# Altium integrated library Freescale Semiconductor ColdFire MPU.IntLib: 17 symbols (part 1 of 2)
Pins are listed as number, name and electrical type; pins without a type are passive.

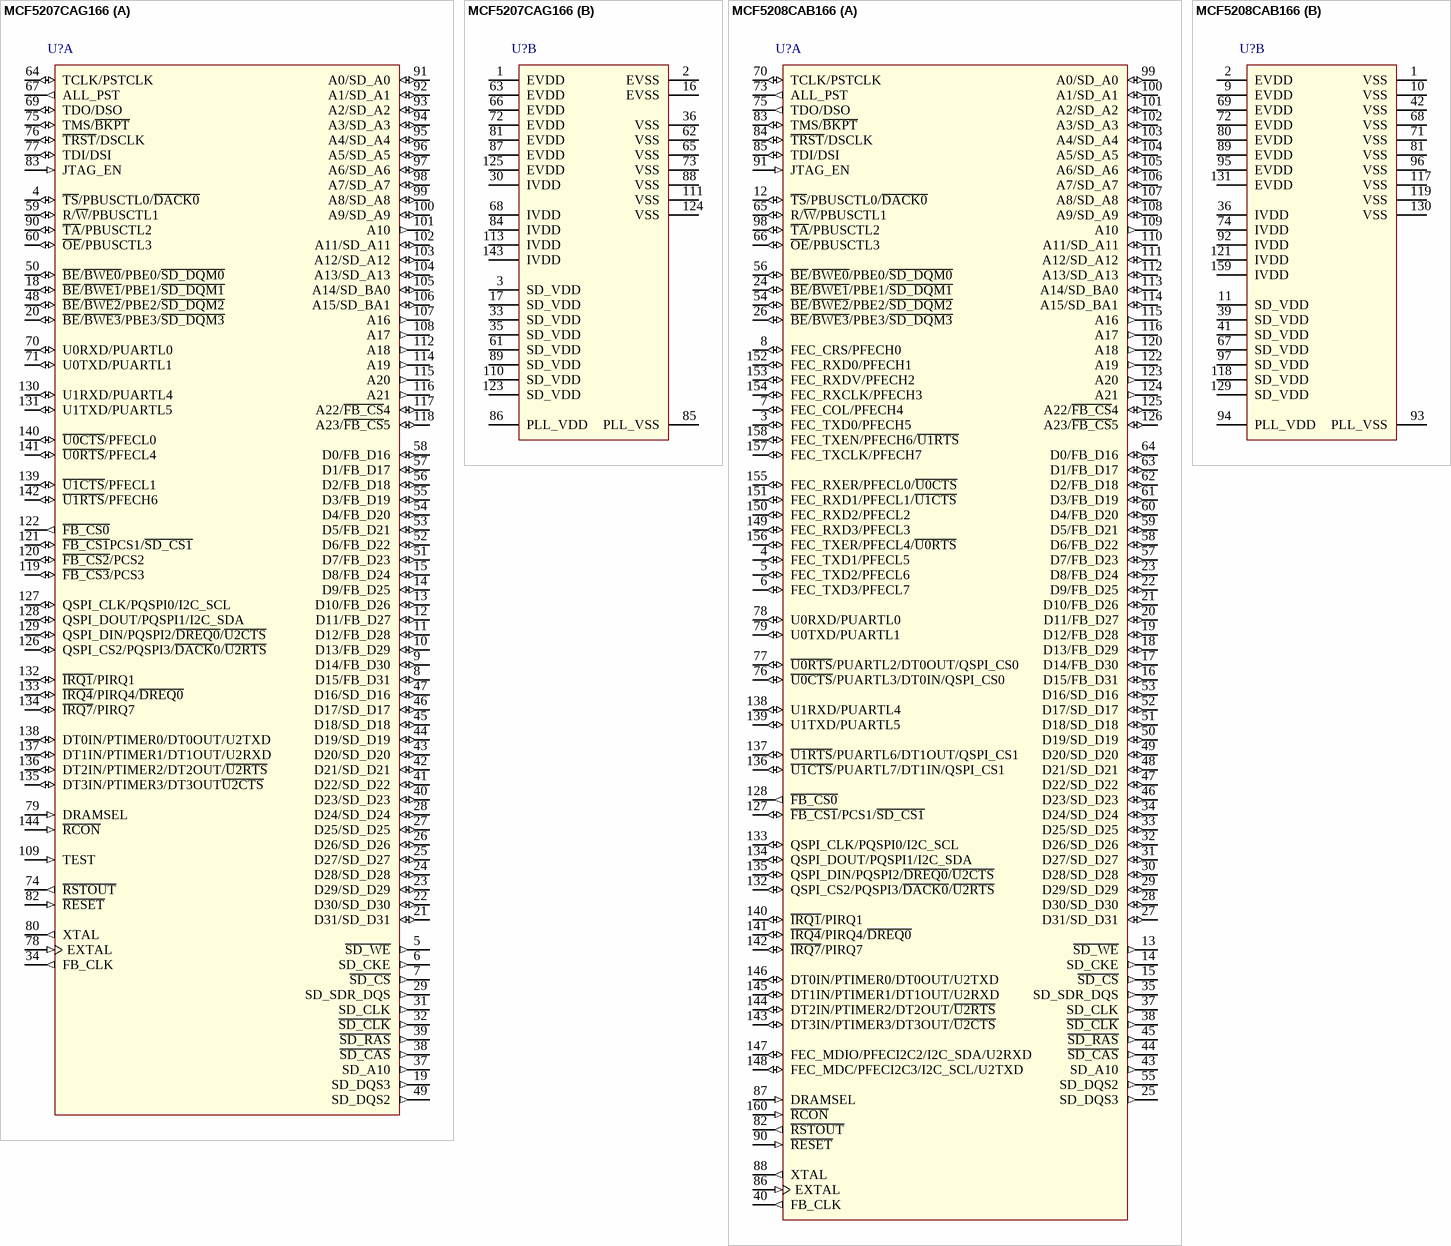
[diagram p0: symbols MCF5207CAG166 to MCF5208CAB166]

## MCF5207CAG166
designator U?
MCF5207 32-Bit Coldfire V2 Microprocessor, 166.67MHz, 16KB RAM, -40°C to 85°C, 144-Pin LQFP; DatasheetVersion: rev3, Sep-2009; PackageVersion: revG, Nov-2009; PackageReference: 918-03; PackageDescription: 144-Pin Thin Quad Flat Pack, 20 x 20 mm Body, 0.5 mm Pitch; ComponentLink1Description: Manufacturer URL; ComponentLink1URL: http://www.freescale.com/
footprint 918-03_N (Thin QFP, 144-Leads, Body 20x20mm, Pitch 0.5mm, IPC Medium Density)
footprint 918-03_L (Thin QFP, 144-Leads, Body 20x20mm, Pitch 0.5mm, IPC High Density)
footprint 918-03_M (Thin QFP, 144-Leads, Body 20x20mm, Pitch 0.5mm, IPC Low Density)
part A pins: 4 ~{TS}/PBUSCTL0/~{DACK0} (io), 5 ~{SD_WE} (out), 6 SD_CKE (out), 7 ~{SD_CS} (out), 8 D15/FB_D31 (io), 9 D14/FB_D30 (io), 10 D13/FB_D29 (io), 11 D12/FB_D28 (io), 12 D11/FB_D27 (io), 13 D10/FB_D26 (io), 14 D9/FB_D25 (io), 15 D8/FB_D24 (io), 18 ~{BE}/~{BWE1}/PBE1/~{SD_DQM1} (io), 19 SD_DQS3 (out), 20 ~{BE}/~{BWE3}/PBE3/~{SD_DQM3} (io), 21 D31/SD_D31 (io), 22 D30/SD_D30 (io), 23 D29/SD_D29 (io), 24 D28/SD_D28 (io), 25 D27/SD_D27 (io), 26 D26/SD_D26 (io), 27 D25/SD_D25 (io), 28 D24/SD_D24 (io), 29 SD_SDR_DQS (out), 31 SD_CLK (out), 32 ~{SD_CLK} (out), 34 FB_CLK (out), 37 SD_A10 (out), 38 ~{SD_CAS} (out), 39 ~{SD_RAS} (out), 40 D23/SD_D23 (io), 41 D22/SD_D22 (io), 42 D21/SD_D21 (io), 43 D20/SD_D20 (io), 44 D19/SD_D19 (io), 45 D18/SD_D18 (io), 46 D17/SD_D17 (io), 47 D16/SD_D16 (io), 48 ~{BE}/~{BWE2}/PBE2/~{SD_DQM2} (io), 49 SD_DQS2 (out), 50 ~{BE}/~{BWE0}/PBE0/~{SD_DQM0} (io), 51 D7/FB_D23 (io), 52 D6/FB_D22 (io), 53 D5/FB_D21 (io), 54 D4/FB_D20 (io), 55 D3/FB_D19 (io), 56 D2/FB_D18 (io), 57 D1/FB_D17 (io), 58 D0/FB_D16 (io), 59 R/~{W}/PBUSCTL1 (io), 60 ~{OE}/PBUSCTL3 (io), 64 TCLK/PSTCLK (io), 67 ALL_PST (out), 69 TDO/DSO (io), 70 U0RXD/PUARTL0 (io), 71 U0TXD/PUARTL1 (io), 74 ~{RSTOUT} (out), 75 TMS/~{BKPT} (io), 76 ~{TRST}/DSCLK (io), 77 TDI/DSI (io), 78 EXTAL (in), 79 DRAMSEL (in), 80 XTAL (out), 82 ~{RESET} (in), 83 JTAG_EN (in), 90 ~{TA}/PBUSCTL2 (io), 91 A0/SD_A0 (io), 92 A1/SD_A1 (io), 93 A2/SD_A2 (io), 94 A3/SD_A3 (io), 95 A4/SD_A4 (io), 96 A5/SD_A5 (io), 97 A6/SD_A6 (io), 98 A7/SD_A7 (io), 99 A8/SD_A8 (io), 100 A9/SD_A9 (io), 101 A10 (out), 102 A11/SD_A11 (io), 103 A12/SD_A12 (io), 104 A13/SD_A13 (io), 105 A14/SD_BA0 (io), 106 A15/SD_BA1 (io), 107 A16 (out), 108 A17 (out), 109 TEST (in), 112 A18 (out), 114 A19 (out), 115 A20 (out), 116 A21 (out), 117 A22/~{FB_CS}4 (io), 118 A23/~{FB_CS}5 (io), 119 ~{FB_CS3}/PCS3 (io), 120 ~{FB_CS2}/PCS2 (io), 121 ~{FB_CS1}PCS1/~{SD_CS1} (io), 122 ~{FB_CS0} (out), 126 QSPI_CS2/PQSPI3/~{DACK}0/~{U2RTS} (io), 127 QSPI_CLK/PQSPI0/I2C_SCL (io), 128 QSPI_DOUT/PQSPI1/I2C_SDA (io), 129 QSPI_DIN/PQSPI2/~{DREQ0}/~{U2CTS} (io), 130 U1RXD/PUARTL4 (io), 131 U1TXD/PUARTL5 (io), 132 ~{IRQ1}/PIRQ1 (io), 133 ~{IRQ4}/PIRQ4/~{DREQ0} (io), 134 ~{IRQ7}/PIRQ7 (io), 135 DT3IN/PTIMER3/DT3OUT~{U2CTS} (io), 136 DT2IN/PTIMER2/DT2OUT/~{U2RTS} (io), 137 DT1IN/PTIMER1/DT1OUT/U2RXD (io), 138 DT0IN/PTIMER0/DT0OUT/U2TXD (io), 139 ~{U1CTS}/PFECL1 (io), 140 ~{U0CTS}/PFECL0 (io), 141 ~{U0RTS}/PFECL4 (io), 142 ~{U1RTS}/PFECH6 (io), 144 ~{RCON} (in)
part B pins: 1 EVDD (power), 2 EVSS (power), 3 SD_VDD (power), 16 EVSS (power), 17 SD_VDD (power), 30 IVDD (power), 33 SD_VDD (power), 35 SD_VDD (power), 36 VSS (power), 61 SD_VDD (power), 62 VSS (power), 63 EVDD (power), 65 VSS (power), 66 EVDD (power), 68 IVDD (power), 72 EVDD (power), 73 VSS (power), 81 EVDD (power), 84 IVDD (power), 85 PLL_VSS (power), 86 PLL_VDD (power), 87 EVDD (power), 88 VSS (power), 89 SD_VDD (power), 110 SD_VDD (power), 111 VSS (power), 113 IVDD (power), 123 SD_VDD (power), 124 VSS (power), 125 EVDD (power), 143 IVDD (power)

## MCF5208CAB166
designator U?
MCF5208 32-Bit Coldfire V2 Microprocessor, 166.67MHz, 16KB RAM, -40°C to 85°C, 160-Pin QFP; DatasheetVersion: rev3, Sep-2009; PackageVersion: rev4, Aug-2009; PackageReference: 864A-03; PackageDescription: 160-Pin Quad Flat Pack 0.65 mm Pitch; ComponentLink1Description: Manufacturer URL; ComponentLink1URL: http://www.freescale.com/
footprint 864A-03_N (QFP, 160-Leads, Body 28x28mm, Pitch 0.65mm, IPC Medium Density)
footprint 864A-03_L (QFP, 160-Leads, Body 28x28mm, Pitch 0.65mm, IPC High Density)
footprint 864A-03_M (QFP, 160-Leads, Body 28x28mm, Pitch 0.65mm, IPC Low Density)
part A pins: 3 FEC_TXD0/PFECH5 (io), 4 FEC_TXD1/PFECL5 (io), 5 FEC_TXD2/PFECL6 (io), 6 FEC_TXD3/PFECL7 (io), 7 FEC_COL/PFECH4 (io), 8 FEC_CRS/PFECH0 (io), 12 ~{TS}/PBUSCTL0/~{DACK0} (io), 13 ~{SD_WE} (out), 14 SD_CKE (out), 15 ~{SD_CS} (out), 16 D15/FB_D31 (io), 17 D14/FB_D30 (io), 18 D13/FB_D29 (io), 19 D12/FB_D28 (io), 20 D11/FB_D27 (io), 21 D10/FB_D26 (io), 22 D9/FB_D25 (io), 23 D8/FB_D24 (io), 24 ~{BE}/~{BWE1}/PBE1/~{SD_DQM1} (io), 25 SD_DQS3 (out), 26 ~{BE}/~{BWE3}/PBE3/~{SD_DQM3} (io), 27 D31/SD_D31 (io), 28 D30/SD_D30 (io), 29 D29/SD_D29 (io), 30 D28/SD_D28 (io), 31 D27/SD_D27 (io), 32 D26/SD_D26 (io), 33 D25/SD_D25 (io), 34 D24/SD_D24 (io), 35 SD_SDR_DQS (out), 37 SD_CLK (out), 38 ~{SD_CLK} (out), 40 FB_CLK (out), 43 SD_A10 (out), 44 ~{SD_CAS} (out), 45 ~{SD_RAS} (out), 46 D23/SD_D23 (io), 47 D22/SD_D22 (io), 48 D21/SD_D21 (io), 49 D20/SD_D20 (io), 50 D19/SD_D19 (io), 51 D18/SD_D18 (io), 52 D17/SD_D17 (io), 53 D16/SD_D16 (io), 54 ~{BE}/~{BWE2}/PBE2/~{SD_DQM2} (io), 55 SD_DQS2 (out), 56 ~{BE}/~{BWE0}/PBE0/~{SD_DQM0} (io), 57 D7/FB_D23 (io), 58 D6/FB_D22 (io), 59 D5/FB_D21 (io), 60 D4/FB_D20 (io), 61 D3/FB_D19 (io), 62 D2/FB_D18 (io), 63 D1/FB_D17 (io), 64 D0/FB_D16 (io), 65 R/~{W}/PBUSCTL1 (io), 66 ~{OE}/PBUSCTL3 (io), 70 TCLK/PSTCLK (io), 73 ALL_PST (out), 75 TDO/DSO (out), 76 ~{U0CTS}/PUARTL3/DT0IN/QSPI_CS0 (io), 77 ~{U0RTS}/PUARTL2/DT0OUT/QSPI_CS0 (io), 78 U0RXD/PUARTL0 (io), 79 U0TXD/PUARTL1 (io), 82 ~{RSTOUT} (out), 83 TMS/~{BKPT} (io), 84 ~{TRST}/DSCLK (io), 85 TDI/DSI (io), 86 EXTAL (in), 87 DRAMSEL (in), 88 XTAL (out), 90 ~{RESET} (in), 91 JTAG_EN (in), 98 ~{TA}/PBUSCTL2 (io), 99 A0/SD_A0 (io), 100 A1/SD_A1 (io), 101 A2/SD_A2 (io), 102 A3/SD_A3 (io), 103 A4/SD_A4 (io), 104 A5/SD_A5 (io), 105 A6/SD_A6 (io), 106 A7/SD_A7 (io), 107 A8/SD_A8 (io), 108 A9/SD_A9 (io), 109 A10 (out), 110 A11/SD_A11 (io), 111 A12/SD_A12 (io), 112 A13/SD_A13 (io), 113 A14/SD_BA0 (io), 114 A15/SD_BA1 (io), 115 A16 (out), 116 A17 (out), 120 A18 (out), 122 A19 (out), 123 A20 (out), 124 A21 (out), 125 A22/~{FB_CS}4 (io), 126 A23/~{FB_CS}5 (io), 127 ~{FB_CS1}/PCS1/~{SD_CS1} (io), 128 ~{FB_CS0} (out), 132 QSPI_CS2/PQSPI3/~{DACK0}/~{U2RTS} (io), 133 QSPI_CLK/PQSPI0/I2C_SCL (io), 134 QSPI_DOUT/PQSPI1/I2C_SDA (io), 135 QSPI_DIN/PQSPI2/~{DREQ0}/~{U2CTS} (io), 136 ~{U1CTS}/PUARTL7/DT1IN/QSPI_CS1 (io), 137 ~{U1RTS}/PUARTL6/DT1OUT/QSPI_CS1 (io), 138 U1RXD/PUARTL4 (io), 139 U1TXD/PUARTL5 (io), 140 ~{IRQ1}/PIRQ1 (io), 141 ~{IRQ4}/PIRQ4/~{DREQ0} (io), 142 ~{IRQ7}/PIRQ7 (io), 143 DT3IN/PTIMER3/DT3OUT/~{U2CTS} (io), 144 DT2IN/PTIMER2/DT2OUT/~{U2RTS} (io), 145 DT1IN/PTIMER1/DT1OUT/U2RXD (io), 146 DT0IN/PTIMER0/DT0OUT/U2TXD (io), 147 FEC_MDIO/PFECI2C2/I2C_SDA/U2RXD (io), 148 FEC_MDC/PFECI2C3/I2C_SCL/U2TXD (io), 149 FEC_RXD3/PFECL3 (io), 150 FEC_RXD2/PFECL2 (io), 151 FEC_RXD1/PFECL1/~{U1CTS} (io), 152 FEC_RXD0/PFECH1 (io), 153 FEC_RXDV/PFECH2 (io), 154 FEC_RXCLK/PFECH3 (io), 155 FEC_RXER/PFECL0/~{U0CTS} (io), 156 FEC_TXER/PFECL4/~{U0RTS} (io), 157 FEC_TXCLK/PFECH7 (io), 158 FEC_TXEN/PFECH6/~{U1RTS} (io), 160 ~{RCON} (in)
part B pins: 1 VSS (power), 2 EVDD (power), 9 EVDD (power), 10 VSS (power), 11 SD_VDD (power), 36 IVDD (power), 39 SD_VDD (power), 41 SD_VDD (power), 42 VSS (power), 67 SD_VDD (power), 68 VSS (power), 69 EVDD (power), 71 VSS (power), 72 EVDD (power), 74 IVDD (power), 80 EVDD (power), 81 VSS (power), 89 EVDD (power), 92 IVDD (power), 93 PLL_VSS (power), 94 PLL_VDD (power), 95 EVDD (power), 96 VSS (power), 97 SD_VDD (power), 117 VSS (power), 118 SD_VDD (power), 119 VSS (power), 121 IVDD (power), 129 SD_VDD (power), 130 VSS (power), 131 EVDD (power), 159 IVDD (power)

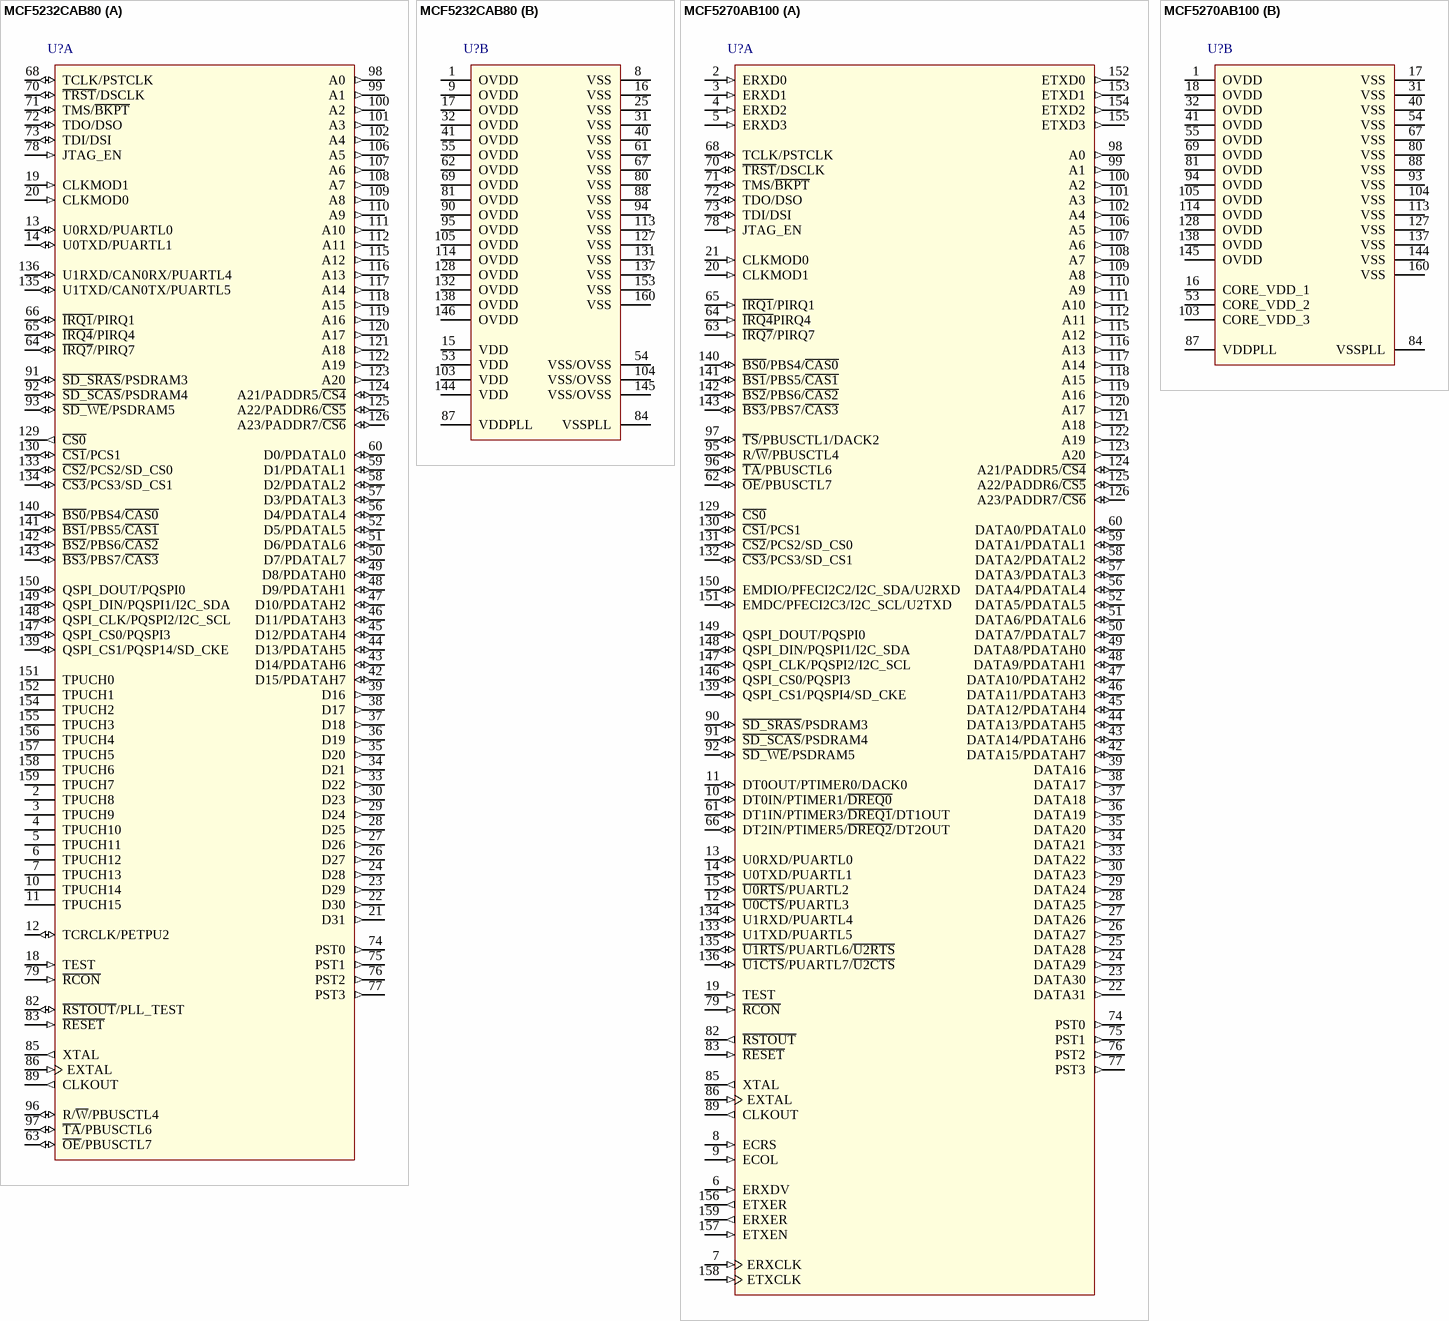
[diagram p1: symbols MCF5232CAB80 to MCF5270AB100]

## MCF5232CAB80
designator U?
MCF5232 32-Bit Coldfire V2 Microprocessor, 80MHz, 64KB RAM, -40°C to 85°C, 160-Pin QFP; DatasheetVersion: rev4, Aug-2009; PackageVersion: rev4, Aug-2009; PackageReference: 864A-03; PackageDescription: 160-Pin Quad Flat Pack 0.65 mm Pitch; ComponentLink1Description: Manufacturer URL; ComponentLink1URL: http://www.freescale.com/
footprint 864A-03_N (QFP, 160-Leads, Body 28x28mm, Pitch 0.65mm, IPC Medium Density)
footprint 864A-03_L (QFP, 160-Leads, Body 28x28mm, Pitch 0.65mm, IPC High Density)
footprint 864A-03_M (QFP, 160-Leads, Body 28x28mm, Pitch 0.65mm, IPC Low Density)
part A pins: 2 TPUCH8, 3 TPUCH9, 4 TPUCH10, 5 TPUCH11, 6 TPUCH12, 7 TPUCH13, 10 TPUCH14, 11 TPUCH15, 12 TCRCLK/PETPU2 (io), 13 U0RXD/PUARTL0 (io), 14 U0TXD/PUARTL1 (io), 18 TEST (in), 19 CLKMOD1 (in), 20 CLKMOD0 (in), 21 D31 (out), 22 D30 (out), 23 D29 (out), 24 D28 (out), 26 D27 (out), 27 D26 (out), 28 D25 (out), 29 D24 (out), 30 D23 (out), 33 D22 (out), 34 D21 (out), 35 D20 (out), 36 D19 (out), 37 D18 (out), 38 D17 (out), 39 D16 (out), 42 D15/PDATAH7 (io), 43 D14/PDATAH6 (io), 44 D13/PDATAH5 (io), 45 D12/PDATAH4 (io), 46 D11/PDATAH3 (io), 47 D10/PDATAH2 (io), 48 D9/PDATAH1 (io), 49 D8/PDATAH0 (io), 50 D7/PDATAL7 (io), 51 D6/PDATAL6 (io), 52 D5/PDATAL5 (io), 56 D4/PDATAL4 (io), 57 D3/PDATAL3 (io), 58 D2/PDATAL2 (io), 59 D1/PDATAL1 (io), 60 D0/PDATAL0 (io), 63 ~{OE}/PBUSCTL7 (io), 64 ~{IRQ7}/PIRQ7 (io), 65 ~{IRQ4}/PIRQ4 (io), 66 ~{IRQ1}/PIRQ1 (io), 68 TCLK/PSTCLK (io), 70 ~{TRST}/DSCLK (io), 71 TMS/~{BKPT} (io), 72 TDO/DSO (io), 73 TDI/DSI (io), 74 PST0 (out), 75 PST1 (out), 76 PST2 (out), 77 PST3 (out), 78 JTAG_EN (in), 79 ~{RCON} (in), 82 ~{RSTOUT}/PLL_TEST (io), 83 ~{RESET} (in), 85 XTAL (out), 86 EXTAL (in), 89 CLKOUT (out), 91 ~{SD_SRAS}/PSDRAM3 (io), 92 ~{SD_SCAS}/PSDRAM4 (io), 93 ~{SD_WE}/PSDRAM5 (io), 96 R/~{W}/PBUSCTL4 (io), 97 ~{TA}/PBUSCTL6 (io), 98 A0 (out), 99 A1 (out), 100 A2 (out), 101 A3 (out), 102 A4 (out), 106 A5 (out), 107 A6 (out), 108 A7 (out), 109 A8 (out), 110 A9 (out), 111 A10 (out), 112 A11 (out), 115 A12 (out), 116 A13 (out), 117 A14 (out), 118 A15 (out), 119 A16 (out), 120 A17 (out), 121 A18 (out), 122 A19 (out), 123 A20 (out), 124 A21/PADDR5/~{CS4} (io), 125 A22/PADDR6/~{CS5} (io), 126 A23/PADDR7/~{CS6} (io), 129 ~{CS0} (out), 130 ~{CS1}/PCS1 (io), 133 ~{CS2}/PCS2/SD_CS0 (io), 134 ~{CS3}/PCS3/SD_CS1 (io), 135 U1TXD/CAN0TX/PUARTL5 (io), 136 U1RXD/CAN0RX/PUARTL4 (io), 139 QSPI_CS1/PQSP14/SD_CKE (io), 140 ~{BS0}/PBS4/~{CAS0} (io), 141 ~{BS1}/PBS5/~{CAS1} (io), 142 ~{BS2}/PBS6/~{CAS2} (io), 143 ~{BS3}/PBS7/~{CAS3} (io), 147 QSPI_CS0/PQSPI3 (io), 148 QSPI_CLK/PQSPI2/I2C_SCL (io), 149 QSPI_DIN/PQSPI1/I2C_SDA (io), 150 QSPI_DOUT/PQSPI0 (io), 151 TPUCH0, 152 TPUCH1, 154 TPUCH2, 155 TPUCH3, 156 TPUCH4, 157 TPUCH5, 158 TPUCH6, 159 TPUCH7
part B pins: 1 OVDD (power), 8 VSS (power), 9 OVDD (power), 15 VDD (power), 16 VSS (power), 17 OVDD (power), 25 VSS (power), 31 VSS (power), 32 OVDD (power), 40 VSS (power), 41 OVDD (power), 53 VDD (power), 54 VSS/OVSS (power), 55 OVDD (power), 61 VSS (power), 62 OVDD (power), 67 VSS (power), 69 OVDD (power), 80 VSS (power), 81 OVDD (power), 84 VSSPLL (power), 87 VDDPLL (power), 88 VSS (power), 90 OVDD (power), 94 VSS (power), 95 OVDD (power), 103 VDD (power), 104 VSS/OVSS (power), 105 OVDD (power), 113 VSS (power), 114 OVDD (power), 127 VSS (power), 128 OVDD (power), 131 VSS (power), 132 OVDD (power), 137 VSS (power), 138 OVDD (power), 144 VDD (power), 145 VSS/OVSS (power), 146 OVDD (power), 153 VSS (power), 160 VSS (power)

## MCF5270AB100
designator U?
MCF5270 32-Bit Coldfire V2 Microprocessor, 100MHz, 64KB RAM, 0°C to 70°C, 160-Pin QFP; DatasheetVersion: rev4, Aug-2009; PackageVersion: rev4, Aug-2009; PackageReference: 864A-03; PackageDescription: 160-Pin Quad Flat Pack 0.65 mm Pitch; ComponentLink1Description: Manufacturer URL; ComponentLink1URL: http://www.freescale.com/
footprint 864A-03_N (QFP, 160-Leads, Body 28x28mm, Pitch 0.65mm, IPC Medium Density)
footprint 864A-03_L (QFP, 160-Leads, Body 28x28mm, Pitch 0.65mm, IPC High Density)
footprint 864A-03_M (QFP, 160-Leads, Body 28x28mm, Pitch 0.65mm, IPC Low Density)
part A pins: 2 ERXD0 (in), 3 ERXD1 (in), 4 ERXD2 (in), 5 ERXD3 (in), 6 ERXDV (in), 7 ERXCLK (in), 8 ECRS (in), 9 ECOL (in), 10 DT0IN/PTIMER1/~{DREQ0} (io), 11 DT0OUT/PTIMER0/DACK0 (io), 12 ~{U0CTS}/PUARTL3 (io), 13 U0RXD/PUARTL0 (io), 14 U0TXD/PUARTL1 (io), 15 ~{U0RTS}/PUARTL2 (io), 19 TEST (in), 20 CLKMOD1 (in), 21 CLKMOD0 (in), 22 DATA31 (out), 23 DATA30 (out), 24 DATA29 (out), 25 DATA28 (out), 26 DATA27 (out), 27 DATA26 (out), 28 DATA25 (out), 29 DATA24 (out), 30 DATA23 (out), 33 DATA22 (out), 34 DATA21 (out), 35 DATA20 (out), 36 DATA19 (out), 37 DATA18 (out), 38 DATA17 (out), 39 DATA16 (out), 42 DATA15/PDATAH7 (io), 43 DATA14/PDATAH6 (io), 44 DATA13/PDATAH5 (io), 45 DATA12/PDATAH4 (io), 46 DATA11/PDATAH3 (io), 47 DATA10/PDATAH2 (io), 48 DATA9/PDATAH1 (io), 49 DATA8/PDATAH0 (io), 50 DATA7/PDATAL7 (io), 51 DATA6/PDATAL6 (io), 52 DATA5/PDATAL5 (io), 56 DATA4/PDATAL4 (io), 57 DATA3/PDATAL3 (io), 58 DATA2/PDATAL2 (io), 59 DATA1/PDATAL1 (io), 60 DATA0/PDATAL0 (io), 61 DT1IN/PTIMER3/~{DREQ1}/DT1OUT (io), 62 ~{OE}/PBUSCTL7 (io), 63 ~{IRQ7}/PIRQ7 (in), 64 ~{IRQ4}PIRQ4 (in), 65 ~{IRQ1}/PIRQ1 (in), 66 DT2IN/PTIMER5/~{DREQ2}/DT2OUT (io), 68 TCLK/PSTCLK (io), 70 ~{TRST}/DSCLK (io), 71 TMS/~{BKPT} (io), 72 TDO/DSO (io), 73 TDI/DSI (io), 74 PST0 (out), 75 PST1 (out), 76 PST2 (out), 77 PST3 (out), 78 JTAG_EN (in), 79 ~{RCON} (in), 82 ~{RSTOUT} (out), 83 ~{RESET} (in), 85 XTAL (out), 86 EXTAL (in), 89 CLKOUT (out), 90 ~{SD_SRAS}/PSDRAM3 (io), 91 ~{SD_SCAS}/PSDRAM4 (io), 92 ~{SD_WE}/PSDRAM5 (io), 95 R/~{W}/PBUSCTL4 (io), 96 ~{TA}/PBUSCTL6 (io), 97 ~{TS}/PBUSCTL1/DACK2 (io), 98 A0 (out), 99 A1 (out), 100 A2 (out), 101 A3 (out), 102 A4 (out), 106 A5 (out), 107 A6 (out), 108 A7 (out), 109 A8 (out), 110 A9 (out), 111 A10 (out), 112 A11 (out), 115 A12 (out), 116 A13 (out), 117 A14 (out), 118 A15 (out), 119 A16 (out), 120 A17 (out), 121 A18 (out), 122 A19 (out), 123 A20 (out), 124 A21/PADDR5/~{CS4} (io), 125 A22/PADDR6/~{CS5} (io), 126 A23/PADDR7/~{CS6} (io), 129 ~{CS0} (io), 130 ~{CS1}/PCS1 (io), 131 ~{CS2}/PCS2/SD_CS0 (io), 132 ~{CS3}/PCS3/SD_CS1 (io), 133 U1TXD/PUARTL5 (io), 134 U1RXD/PUARTL4 (io), 135 ~{U1RTS}/PUARTL6/~{U2RTS} (io), 136 ~{U1CTS}/PUARTL7/~{U2CTS} (io), 139 QSPI_CS1/PQSPI4/SD_CKE (io), 140 ~{BS0}/PBS4/~{CAS0} (io), 141 ~{BS1}/PBS5/~{CAS1} (io), 142 ~{BS2}/PBS6/~{CAS2} (io), 143 ~{BS3}/PBS7/~{CAS3} (io), 146 QSPI_CS0/PQSPI3 (io), 147 QSPI_CLK/PQSPI2/I2C_SCL (io), 148 QSPI_DIN/PQSPI1/I2C_SDA (io), 149 QSPI_DOUT/PQSPI0 (io), 150 EMDIO/PFECI2C2/I2C_SDA/U2RXD (io), 151 EMDC/PFECI2C3/I2C_SCL/U2TXD (io), 152 ETXD0 (out), 153 ETXD1 (out), 154 ETXD2 (out), 155 ETXD3 (out), 156 ETXER (out), 157 ETXEN (in), 158 ETXCLK (in), 159 ERXER (out)
part B pins: 1 OVDD (power), 16 CORE_VDD_1 (power), 17 VSS (power), 18 OVDD (power), 31 VSS (power), 32 OVDD (power), 40 VSS (power), 41 OVDD (power), 53 CORE_VDD_2 (power), 54 VSS (power), 55 OVDD (power), 67 VSS (power), 69 OVDD (power), 80 VSS (power), 81 OVDD (power), 84 VSSPLL (power), 87 VDDPLL (power), 88 VSS (power), 93 VSS (power), 94 OVDD (power), 103 CORE_VDD_3 (power), 104 VSS (power), 105 OVDD (power), 113 VSS (power), 114 OVDD (power), 127 VSS (power), 128 OVDD (power), 137 VSS (power), 138 OVDD (power), 144 VSS (power), 145 OVDD (power), 160 VSS (power)

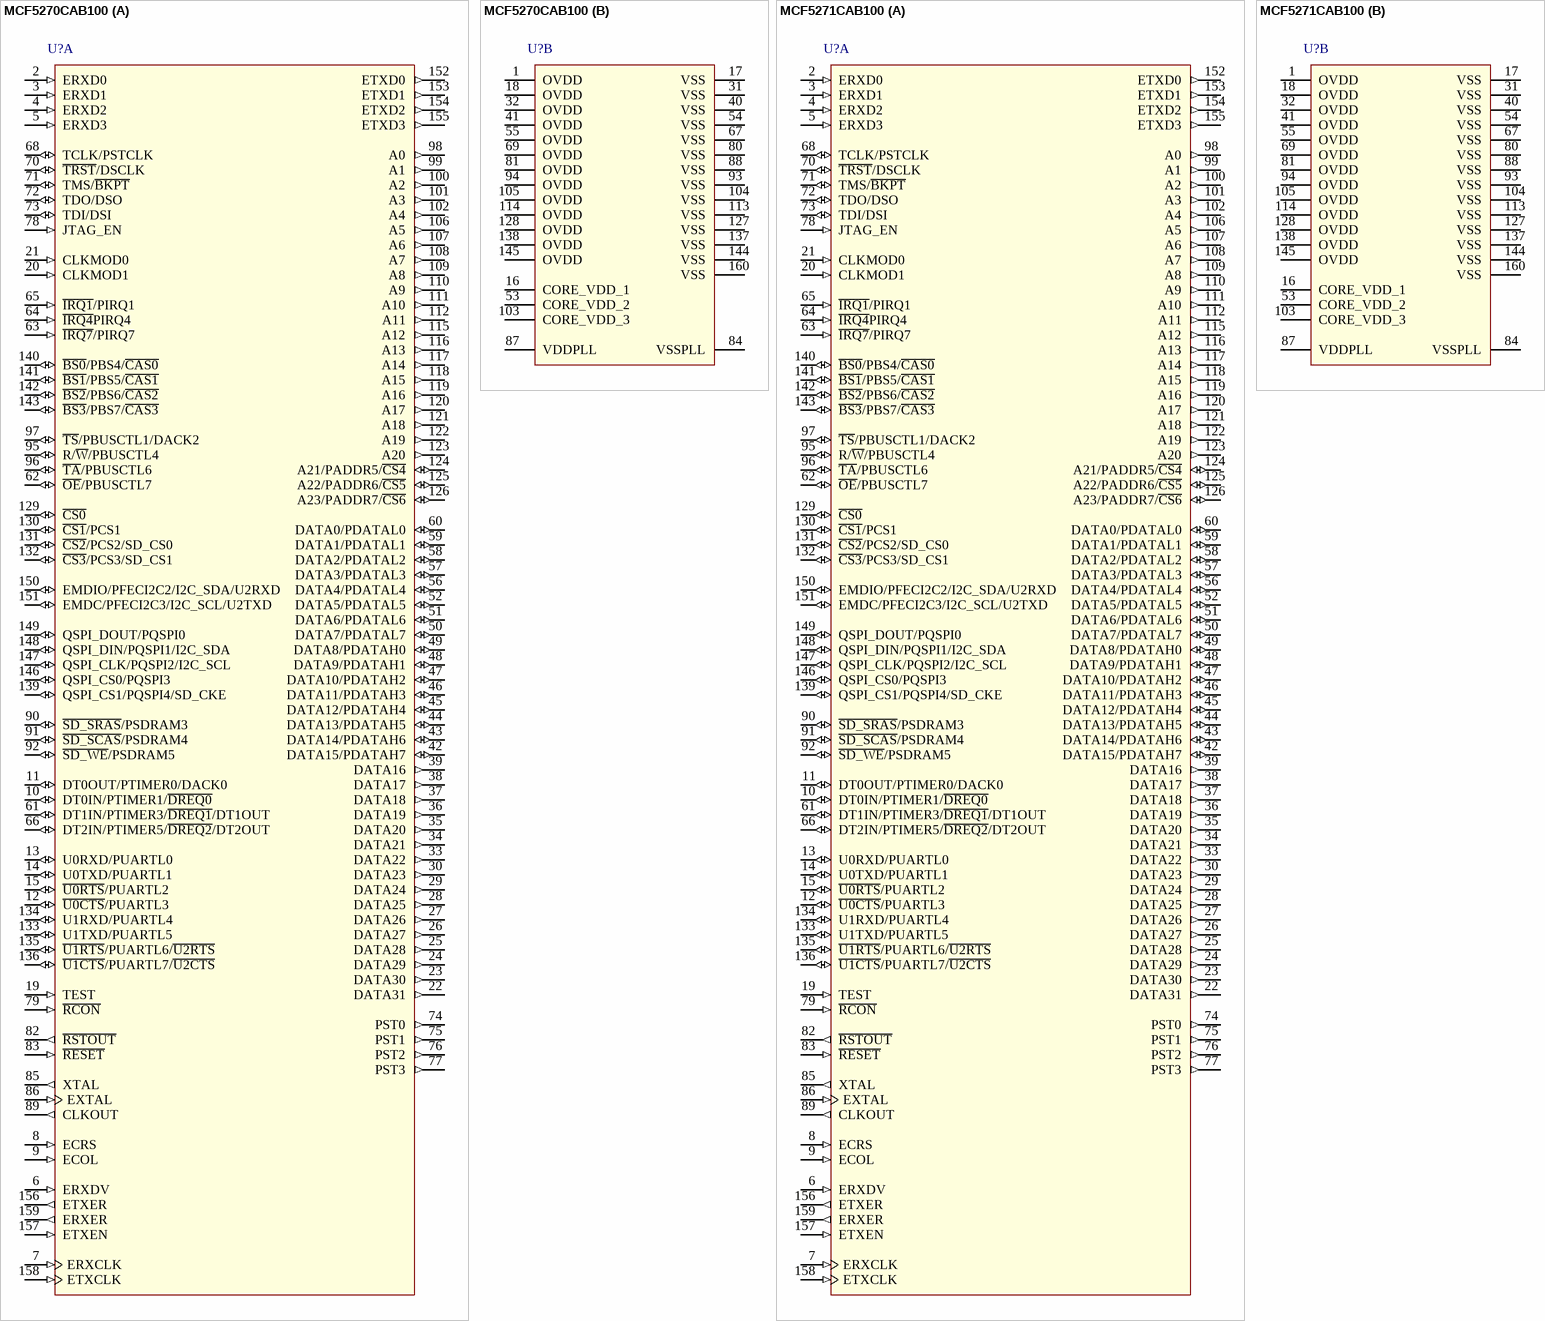
[diagram p2: symbols MCF5270CAB100 to MCF5271CAB100]

## MCF5270CAB100
designator U?
MCF5270 32-Bit Coldfire V2 Microprocessor, 100MHz, 64KB RAM, -40°C to 85°C, 160-Pin QFP; DatasheetVersion: rev4, Aug-2009; PackageVersion: rev4, Aug-2009; PackageReference: 864A-03; PackageDescription: 160-Pin Quad Flat Pack 0.65 mm Pitch; ComponentLink1Description: Manufacturer URL; ComponentLink1URL: http://www.freescale.com/
footprint 864A-03_N (QFP, 160-Leads, Body 28x28mm, Pitch 0.65mm, IPC Medium Density)
footprint 864A-03_L (QFP, 160-Leads, Body 28x28mm, Pitch 0.65mm, IPC High Density)
footprint 864A-03_M (QFP, 160-Leads, Body 28x28mm, Pitch 0.65mm, IPC Low Density)
part A pins: 2 ERXD0 (in), 3 ERXD1 (in), 4 ERXD2 (in), 5 ERXD3 (in), 6 ERXDV (in), 7 ERXCLK (in), 8 ECRS (in), 9 ECOL (in), 10 DT0IN/PTIMER1/~{DREQ0} (io), 11 DT0OUT/PTIMER0/DACK0 (io), 12 ~{U0CTS}/PUARTL3 (io), 13 U0RXD/PUARTL0 (io), 14 U0TXD/PUARTL1 (io), 15 ~{U0RTS}/PUARTL2 (io), 19 TEST (in), 20 CLKMOD1 (in), 21 CLKMOD0 (in), 22 DATA31 (out), 23 DATA30 (out), 24 DATA29 (out), 25 DATA28 (out), 26 DATA27 (out), 27 DATA26 (out), 28 DATA25 (out), 29 DATA24 (out), 30 DATA23 (out), 33 DATA22 (out), 34 DATA21 (out), 35 DATA20 (out), 36 DATA19 (out), 37 DATA18 (out), 38 DATA17 (out), 39 DATA16 (out), 42 DATA15/PDATAH7 (io), 43 DATA14/PDATAH6 (io), 44 DATA13/PDATAH5 (io), 45 DATA12/PDATAH4 (io), 46 DATA11/PDATAH3 (io), 47 DATA10/PDATAH2 (io), 48 DATA9/PDATAH1 (io), 49 DATA8/PDATAH0 (io), 50 DATA7/PDATAL7 (io), 51 DATA6/PDATAL6 (io), 52 DATA5/PDATAL5 (io), 56 DATA4/PDATAL4 (io), 57 DATA3/PDATAL3 (io), 58 DATA2/PDATAL2 (io), 59 DATA1/PDATAL1 (io), 60 DATA0/PDATAL0 (io), 61 DT1IN/PTIMER3/~{DREQ1}/DT1OUT (io), 62 ~{OE}/PBUSCTL7 (io), 63 ~{IRQ7}/PIRQ7 (in), 64 ~{IRQ4}PIRQ4 (in), 65 ~{IRQ1}/PIRQ1 (in), 66 DT2IN/PTIMER5/~{DREQ2}/DT2OUT (io), 68 TCLK/PSTCLK (io), 70 ~{TRST}/DSCLK (io), 71 TMS/~{BKPT} (io), 72 TDO/DSO (io), 73 TDI/DSI (io), 74 PST0 (out), 75 PST1 (out), 76 PST2 (out), 77 PST3 (out), 78 JTAG_EN (in), 79 ~{RCON} (in), 82 ~{RSTOUT} (out), 83 ~{RESET} (in), 85 XTAL (out), 86 EXTAL (in), 89 CLKOUT (out), 90 ~{SD_SRAS}/PSDRAM3 (io), 91 ~{SD_SCAS}/PSDRAM4 (io), 92 ~{SD_WE}/PSDRAM5 (io), 95 R/~{W}/PBUSCTL4 (io), 96 ~{TA}/PBUSCTL6 (io), 97 ~{TS}/PBUSCTL1/DACK2 (io), 98 A0 (out), 99 A1 (out), 100 A2 (out), 101 A3 (out), 102 A4 (out), 106 A5 (out), 107 A6 (out), 108 A7 (out), 109 A8 (out), 110 A9 (out), 111 A10 (out), 112 A11 (out), 115 A12 (out), 116 A13 (out), 117 A14 (out), 118 A15 (out), 119 A16 (out), 120 A17 (out), 121 A18 (out), 122 A19 (out), 123 A20 (out), 124 A21/PADDR5/~{CS4} (io), 125 A22/PADDR6/~{CS5} (io), 126 A23/PADDR7/~{CS6} (io), 129 ~{CS0} (io), 130 ~{CS1}/PCS1 (io), 131 ~{CS2}/PCS2/SD_CS0 (io), 132 ~{CS3}/PCS3/SD_CS1 (io), 133 U1TXD/PUARTL5 (io), 134 U1RXD/PUARTL4 (io), 135 ~{U1RTS}/PUARTL6/~{U2RTS} (io), 136 ~{U1CTS}/PUARTL7/~{U2CTS} (io), 139 QSPI_CS1/PQSPI4/SD_CKE (io), 140 ~{BS0}/PBS4/~{CAS0} (io), 141 ~{BS1}/PBS5/~{CAS1} (io), 142 ~{BS2}/PBS6/~{CAS2} (io), 143 ~{BS3}/PBS7/~{CAS3} (io), 146 QSPI_CS0/PQSPI3 (io), 147 QSPI_CLK/PQSPI2/I2C_SCL (io), 148 QSPI_DIN/PQSPI1/I2C_SDA (io), 149 QSPI_DOUT/PQSPI0 (io), 150 EMDIO/PFECI2C2/I2C_SDA/U2RXD (io), 151 EMDC/PFECI2C3/I2C_SCL/U2TXD (io), 152 ETXD0 (out), 153 ETXD1 (out), 154 ETXD2 (out), 155 ETXD3 (out), 156 ETXER (out), 157 ETXEN (in), 158 ETXCLK (in), 159 ERXER (out)
part B pins: 1 OVDD (power), 16 CORE_VDD_1 (power), 17 VSS (power), 18 OVDD (power), 31 VSS (power), 32 OVDD (power), 40 VSS (power), 41 OVDD (power), 53 CORE_VDD_2 (power), 54 VSS (power), 55 OVDD (power), 67 VSS (power), 69 OVDD (power), 80 VSS (power), 81 OVDD (power), 84 VSSPLL (power), 87 VDDPLL (power), 88 VSS (power), 93 VSS (power), 94 OVDD (power), 103 CORE_VDD_3 (power), 104 VSS (power), 105 OVDD (power), 113 VSS (power), 114 OVDD (power), 127 VSS (power), 128 OVDD (power), 137 VSS (power), 138 OVDD (power), 144 VSS (power), 145 OVDD (power), 160 VSS (power)

## MCF5271CAB100
designator U?
MCF5271 32-Bit Coldfire V2 Microprocessor, 100MHz, 64KB RAM, -40°C to 85°C, 160-Pin QFP; DatasheetVersion: rev4, Aug-2009; PackageVersion: rev4, Aug-2009; PackageReference: 864A-03; PackageDescription: 160-Pin Quad Flat Pack 0.65 mm Pitch; ComponentLink1Description: Manufacturer URL; ComponentLink1URL: http://www.freescale.com/
footprint 864A-03_N (QFP, 160-Leads, Body 28x28mm, Pitch 0.65mm, IPC Medium Density)
footprint 864A-03_L (QFP, 160-Leads, Body 28x28mm, Pitch 0.65mm, IPC High Density)
footprint 864A-03_M (QFP, 160-Leads, Body 28x28mm, Pitch 0.65mm, IPC Low Density)
part A pins: 2 ERXD0 (in), 3 ERXD1 (in), 4 ERXD2 (in), 5 ERXD3 (in), 6 ERXDV (in), 7 ERXCLK (in), 8 ECRS (in), 9 ECOL (in), 10 DT0IN/PTIMER1/~{DREQ0} (io), 11 DT0OUT/PTIMER0/DACK0 (io), 12 ~{U0CTS}/PUARTL3 (io), 13 U0RXD/PUARTL0 (io), 14 U0TXD/PUARTL1 (io), 15 ~{U0RTS}/PUARTL2 (io), 19 TEST (in), 20 CLKMOD1 (in), 21 CLKMOD0 (in), 22 DATA31 (out), 23 DATA30 (out), 24 DATA29 (out), 25 DATA28 (out), 26 DATA27 (out), 27 DATA26 (out), 28 DATA25 (out), 29 DATA24 (out), 30 DATA23 (out), 33 DATA22 (out), 34 DATA21 (out), 35 DATA20 (out), 36 DATA19 (out), 37 DATA18 (out), 38 DATA17 (out), 39 DATA16 (out), 42 DATA15/PDATAH7 (io), 43 DATA14/PDATAH6 (io), 44 DATA13/PDATAH5 (io), 45 DATA12/PDATAH4 (io), 46 DATA11/PDATAH3 (io), 47 DATA10/PDATAH2 (io), 48 DATA9/PDATAH1 (io), 49 DATA8/PDATAH0 (io), 50 DATA7/PDATAL7 (io), 51 DATA6/PDATAL6 (io), 52 DATA5/PDATAL5 (io), 56 DATA4/PDATAL4 (io), 57 DATA3/PDATAL3 (io), 58 DATA2/PDATAL2 (io), 59 DATA1/PDATAL1 (io), 60 DATA0/PDATAL0 (io), 61 DT1IN/PTIMER3/~{DREQ1}/DT1OUT (io), 62 ~{OE}/PBUSCTL7 (io), 63 ~{IRQ7}/PIRQ7 (in), 64 ~{IRQ4}PIRQ4 (in), 65 ~{IRQ1}/PIRQ1 (in), 66 DT2IN/PTIMER5/~{DREQ2}/DT2OUT (io), 68 TCLK/PSTCLK (io), 70 ~{TRST}/DSCLK (io), 71 TMS/~{BKPT} (io), 72 TDO/DSO (io), 73 TDI/DSI (io), 74 PST0 (out), 75 PST1 (out), 76 PST2 (out), 77 PST3 (out), 78 JTAG_EN (in), 79 ~{RCON} (in), 82 ~{RSTOUT} (out), 83 ~{RESET} (in), 85 XTAL (out), 86 EXTAL (in), 89 CLKOUT (out), 90 ~{SD_SRAS}/PSDRAM3 (io), 91 ~{SD_SCAS}/PSDRAM4 (io), 92 ~{SD_WE}/PSDRAM5 (io), 95 R/~{W}/PBUSCTL4 (io), 96 ~{TA}/PBUSCTL6 (io), 97 ~{TS}/PBUSCTL1/DACK2 (io), 98 A0 (out), 99 A1 (out), 100 A2 (out), 101 A3 (out), 102 A4 (out), 106 A5 (out), 107 A6 (out), 108 A7 (out), 109 A8 (out), 110 A9 (out), 111 A10 (out), 112 A11 (out), 115 A12 (out), 116 A13 (out), 117 A14 (out), 118 A15 (out), 119 A16 (out), 120 A17 (out), 121 A18 (out), 122 A19 (out), 123 A20 (out), 124 A21/PADDR5/~{CS4} (io), 125 A22/PADDR6/~{CS5} (io), 126 A23/PADDR7/~{CS6} (io), 129 ~{CS0} (io), 130 ~{CS1}/PCS1 (io), 131 ~{CS2}/PCS2/SD_CS0 (io), 132 ~{CS3}/PCS3/SD_CS1 (io), 133 U1TXD/PUARTL5 (io), 134 U1RXD/PUARTL4 (io), 135 ~{U1RTS}/PUARTL6/~{U2RTS} (io), 136 ~{U1CTS}/PUARTL7/~{U2CTS} (io), 139 QSPI_CS1/PQSPI4/SD_CKE (io), 140 ~{BS0}/PBS4/~{CAS0} (io), 141 ~{BS1}/PBS5/~{CAS1} (io), 142 ~{BS2}/PBS6/~{CAS2} (io), 143 ~{BS3}/PBS7/~{CAS3} (io), 146 QSPI_CS0/PQSPI3 (io), 147 QSPI_CLK/PQSPI2/I2C_SCL (io), 148 QSPI_DIN/PQSPI1/I2C_SDA (io), 149 QSPI_DOUT/PQSPI0 (io), 150 EMDIO/PFECI2C2/I2C_SDA/U2RXD (io), 151 EMDC/PFECI2C3/I2C_SCL/U2TXD (io), 152 ETXD0 (out), 153 ETXD1 (out), 154 ETXD2 (out), 155 ETXD3 (out), 156 ETXER (out), 157 ETXEN (in), 158 ETXCLK (in), 159 ERXER (out)
part B pins: 1 OVDD (power), 16 CORE_VDD_1 (power), 17 VSS (power), 18 OVDD (power), 31 VSS (power), 32 OVDD (power), 40 VSS (power), 41 OVDD (power), 53 CORE_VDD_2 (power), 54 VSS (power), 55 OVDD (power), 67 VSS (power), 69 OVDD (power), 80 VSS (power), 81 OVDD (power), 84 VSSPLL (power), 87 VDDPLL (power), 88 VSS (power), 93 VSS (power), 94 OVDD (power), 103 CORE_VDD_3 (power), 104 VSS (power), 105 OVDD (power), 113 VSS (power), 114 OVDD (power), 127 VSS (power), 128 OVDD (power), 137 VSS (power), 138 OVDD (power), 144 VSS (power), 145 OVDD (power), 160 VSS (power)

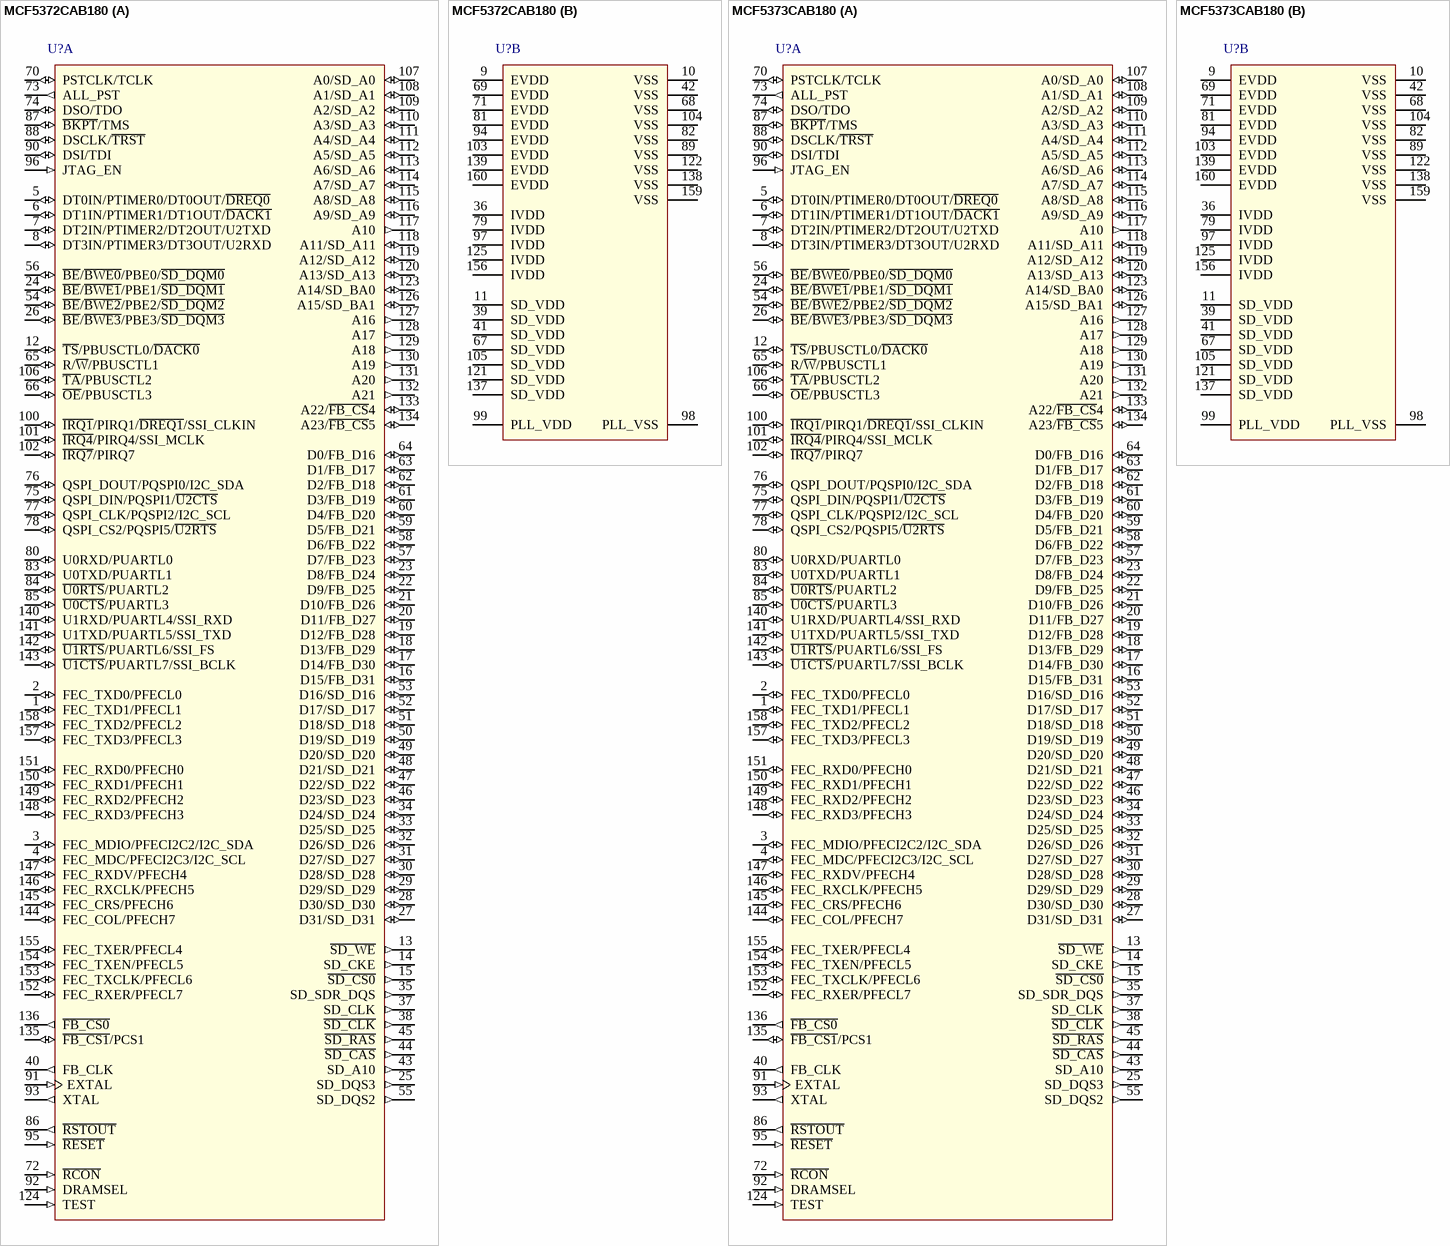
[diagram p3: symbols MCF5372CAB180 to MCF5373CAB180]

## MCF5372CAB180
designator U?
MCF5372 32-Bit Coldfire V3 Microprocessor, 180MHz, 32KB RAM, -40°C to 85°C, 160-Pin QFP; DatasheetVersion: rev4, Nov-2008; PackageVersion: rev4, Aug-2009; PackageReference: 864A-03; PackageDescription: 160-Pin Quad Flat Pack 0.65 mm Pitch; ComponentLink1Description: Manufacturer URL; ComponentLink1URL: http://www.freescale.com/
footprint 864A-03_N (QFP, 160-Leads, Body 28x28mm, Pitch 0.65mm, IPC Medium Density)
footprint 864A-03_L (QFP, 160-Leads, Body 28x28mm, Pitch 0.65mm, IPC High Density)
footprint 864A-03_M (QFP, 160-Leads, Body 28x28mm, Pitch 0.65mm, IPC Low Density)
part A pins: 1 FEC_TXD1/PFECL1 (io), 2 FEC_TXD0/PFECL0 (io), 3 FEC_MDIO/PFECI2C2/I2C_SDA (io), 4 FEC_MDC/PFECI2C3/I2C_SCL (io), 5 DT0IN/PTIMER0/DT0OUT/~{DREQ0} (io), 6 DT1IN/PTIMER1/DT1OUT/~{DACK1} (io), 7 DT2IN/PTIMER2/DT2OUT/U2TXD (io), 8 DT3IN/PTIMER3/DT3OUT/U2RXD (io), 12 ~{TS}/PBUSCTL0/~{DACK0} (io), 13 ~{SD_WE} (out), 14 SD_CKE (out), 15 ~{SD_CS0} (out), 16 D15/FB_D31 (io), 17 D14/FB_D30 (io), 18 D13/FB_D29 (io), 19 D12/FB_D28 (io), 20 D11/FB_D27 (io), 21 D10/FB_D26 (io), 22 D9/FB_D25 (io), 23 D8/FB_D24 (io), 24 ~{BE}/~{BWE1}/PBE1/~{SD_DQM1} (io), 25 SD_DQS3 (out), 26 ~{BE}/~{BWE3}/PBE3/~{SD_DQM3} (io), 27 D31/SD_D31 (io), 28 D30/SD_D30 (io), 29 D29/SD_D29 (io), 30 D28/SD_D28 (io), 31 D27/SD_D27 (io), 32 D26/SD_D26 (io), 33 D25/SD_D25 (io), 34 D24/SD_D24 (io), 35 SD_SDR_DQS (out), 37 SD_CLK (out), 38 ~{SD_CLK} (out), 40 FB_CLK (out), 43 SD_A10 (out), 44 ~{SD_CAS} (out), 45 ~{SD_RAS} (out), 46 D23/SD_D23 (io), 47 D22/SD_D22 (io), 48 D21/SD_D21 (io), 49 D20/SD_D20 (io), 50 D19/SD_D19 (io), 51 D18/SD_D18 (io), 52 D17/SD_D17 (io), 53 D16/SD_D16 (io), 54 ~{BE}/~{BWE2}/PBE2/~{SD_DQM2} (io), 55 SD_DQS2 (out), 56 ~{BE}/~{BWE0}/PBE0/~{SD_DQM0} (io), 57 D7/FB_D23 (io), 58 D6/FB_D22 (io), 59 D5/FB_D21 (io), 60 D4/FB_D20 (io), 61 D3/FB_D19 (io), 62 D2/FB_D18 (io), 63 D1/FB_D17 (io), 64 D0/FB_D16 (io), 65 R/~{W}/PBUSCTL1 (io), 66 ~{OE}/PBUSCTL3 (io), 70 PSTCLK/TCLK (io), 72 ~{RCON} (in), 73 ALL_PST (out), 74 DSO/TDO (io), 75 QSPI_DIN/PQSPI1/~{U2CTS} (io), 76 QSPI_DOUT/PQSPI0/I2C_SDA (io), 77 QSPI_CLK/PQSPI2/I2C_SCL (io), 78 QSPI_CS2/PQSPI5/~{U2RTS} (io), 80 U0RXD/PUARTL0 (io), 83 U0TXD/PUARTL1 (io), 84 ~{U0RTS}/PUARTL2 (io), 85 ~{U0CTS}/PUARTL3 (io), 86 ~{RSTOUT} (out), 87 ~{BKPT}/TMS (io), 88 DSCLK/~{TRST} (io), 90 DSI/TDI (io), 91 EXTAL (in), 92 DRAMSEL (in), 93 XTAL (out), 95 ~{RESET} (in), 96 JTAG_EN (in), 100 ~{IRQ1}/PIRQ1/~{DREQ1}/SSI_CLKIN (io), 101 ~{IRQ4}/PIRQ4/SSI_MCLK (io), 102 ~{IRQ7}/PIRQ7 (io), 106 ~{TA}/PBUSCTL2 (io), 107 A0/SD_A0 (io), 108 A1/SD_A1 (io), 109 A2/SD_A2 (io), 110 A3/SD_A3 (io), 111 A4/SD_A4 (io), 112 A5/SD_A5 (io), 113 A6/SD_A6 (io), 114 A7/SD_A7 (io), 115 A8/SD_A8 (io), 116 A9/SD_A9 (io), 117 A10 (out), 118 A11/SD_A11 (io), 119 A12/SD_A12 (io), 120 A13/SD_A13 (io), 123 A14/SD_BA0 (io), 124 TEST (in), 126 A15/SD_BA1 (io), 127 A16 (out), 128 A17 (out), 129 A18 (out), 130 A19 (out), 131 A20 (out), 132 A21 (out), 133 A22/~{FB_CS}4 (io), 134 A23/~{FB_CS}5 (io), 135 ~{FB_CS1}/PCS1 (io), 136 ~{FB_CS0} (out), 140 U1RXD/PUARTL4/SSI_RXD (io), 141 U1TXD/PUARTL5/SSI_TXD (io), 142 ~{U1RTS}/PUARTL6/SSI_FS (io), 143 ~{U1CTS}/PUARTL7/SSI_BCLK (io), 144 FEC_COL/PFECH7 (io), 145 FEC_CRS/PFECH6 (io), 146 FEC_RXCLK/PFECH5 (io), 147 FEC_RXDV/PFECH4 (io), 148 FEC_RXD3/PFECH3 (io), 149 FEC_RXD2/PFECH2 (io), 150 FEC_RXD1/PFECH1 (io), 151 FEC_RXD0/PFECH0 (io), 152 FEC_RXER/PFECL7 (io), 153 FEC_TXCLK/PFECL6 (io), 154 FEC_TXEN/PFECL5 (io), 155 FEC_TXER/PFECL4 (io), 157 FEC_TXD3/PFECL3 (io), 158 FEC_TXD2/PFECL2 (io)
part B pins: 9 EVDD (power), 10 VSS (power), 11 SD_VDD (power), 36 IVDD (power), 39 SD_VDD (power), 41 SD_VDD (power), 42 VSS (power), 67 SD_VDD (power), 68 VSS (power), 69 EVDD (power), 71 EVDD (power), 79 IVDD (power), 81 EVDD (power), 82 VSS (power), 89 VSS (power), 94 EVDD (power), 97 IVDD (power), 98 PLL_VSS (power), 99 PLL_VDD (power), 103 EVDD (power), 104 VSS (power), 105 SD_VDD (power), 121 SD_VDD (power), 122 VSS (power), 125 IVDD (power), 137 SD_VDD (power), 138 VSS (power), 139 EVDD (power), 156 IVDD (power), 159 VSS (power), 160 EVDD (power)

## MCF5373CAB180
designator U?
MCF5373 32-Bit Coldfire V3 Microprocessor, 180MHz, 32KB RAM, -40°C to 85°C, 160-Pin QFP; DatasheetVersion: rev4, Nov-2008; PackageVersion: rev4, Aug-2009; PackageReference: 864A-03; PackageDescription: 160-Pin Quad Flat Pack 0.65 mm Pitch; ComponentLink1Description: Manufacturer URL; ComponentLink1URL: http://www.freescale.com/
footprint 864A-03_N (QFP, 160-Leads, Body 28x28mm, Pitch 0.65mm, IPC Medium Density)
footprint 864A-03_L (QFP, 160-Leads, Body 28x28mm, Pitch 0.65mm, IPC High Density)
footprint 864A-03_M (QFP, 160-Leads, Body 28x28mm, Pitch 0.65mm, IPC Low Density)
part A pins: 1 FEC_TXD1/PFECL1 (io), 2 FEC_TXD0/PFECL0 (io), 3 FEC_MDIO/PFECI2C2/I2C_SDA (io), 4 FEC_MDC/PFECI2C3/I2C_SCL (io), 5 DT0IN/PTIMER0/DT0OUT/~{DREQ0} (io), 6 DT1IN/PTIMER1/DT1OUT/~{DACK1} (io), 7 DT2IN/PTIMER2/DT2OUT/U2TXD (io), 8 DT3IN/PTIMER3/DT3OUT/U2RXD (io), 12 ~{TS}/PBUSCTL0/~{DACK0} (io), 13 ~{SD_WE} (out), 14 SD_CKE (out), 15 ~{SD_CS0} (out), 16 D15/FB_D31 (io), 17 D14/FB_D30 (io), 18 D13/FB_D29 (io), 19 D12/FB_D28 (io), 20 D11/FB_D27 (io), 21 D10/FB_D26 (io), 22 D9/FB_D25 (io), 23 D8/FB_D24 (io), 24 ~{BE}/~{BWE1}/PBE1/~{SD_DQM1} (io), 25 SD_DQS3 (out), 26 ~{BE}/~{BWE3}/PBE3/~{SD_DQM3} (io), 27 D31/SD_D31 (io), 28 D30/SD_D30 (io), 29 D29/SD_D29 (io), 30 D28/SD_D28 (io), 31 D27/SD_D27 (io), 32 D26/SD_D26 (io), 33 D25/SD_D25 (io), 34 D24/SD_D24 (io), 35 SD_SDR_DQS (out), 37 SD_CLK (out), 38 ~{SD_CLK} (out), 40 FB_CLK (out), 43 SD_A10 (out), 44 ~{SD_CAS} (out), 45 ~{SD_RAS} (out), 46 D23/SD_D23 (io), 47 D22/SD_D22 (io), 48 D21/SD_D21 (io), 49 D20/SD_D20 (io), 50 D19/SD_D19 (io), 51 D18/SD_D18 (io), 52 D17/SD_D17 (io), 53 D16/SD_D16 (io), 54 ~{BE}/~{BWE2}/PBE2/~{SD_DQM2} (io), 55 SD_DQS2 (out), 56 ~{BE}/~{BWE0}/PBE0/~{SD_DQM0} (io), 57 D7/FB_D23 (io), 58 D6/FB_D22 (io), 59 D5/FB_D21 (io), 60 D4/FB_D20 (io), 61 D3/FB_D19 (io), 62 D2/FB_D18 (io), 63 D1/FB_D17 (io), 64 D0/FB_D16 (io), 65 R/~{W}/PBUSCTL1 (io), 66 ~{OE}/PBUSCTL3 (io), 70 PSTCLK/TCLK (io), 72 ~{RCON} (in), 73 ALL_PST (out), 74 DSO/TDO (io), 75 QSPI_DIN/PQSPI1/~{U2CTS} (io), 76 QSPI_DOUT/PQSPI0/I2C_SDA (io), 77 QSPI_CLK/PQSPI2/I2C_SCL (io), 78 QSPI_CS2/PQSPI5/~{U2RTS} (io), 80 U0RXD/PUARTL0 (io), 83 U0TXD/PUARTL1 (io), 84 ~{U0RTS}/PUARTL2 (io), 85 ~{U0CTS}/PUARTL3 (io), 86 ~{RSTOUT} (out), 87 ~{BKPT}/TMS (io), 88 DSCLK/~{TRST} (io), 90 DSI/TDI (io), 91 EXTAL (in), 92 DRAMSEL (in), 93 XTAL (out), 95 ~{RESET} (in), 96 JTAG_EN (in), 100 ~{IRQ1}/PIRQ1/~{DREQ1}/SSI_CLKIN (io), 101 ~{IRQ4}/PIRQ4/SSI_MCLK (io), 102 ~{IRQ7}/PIRQ7 (io), 106 ~{TA}/PBUSCTL2 (io), 107 A0/SD_A0 (io), 108 A1/SD_A1 (io), 109 A2/SD_A2 (io), 110 A3/SD_A3 (io), 111 A4/SD_A4 (io), 112 A5/SD_A5 (io), 113 A6/SD_A6 (io), 114 A7/SD_A7 (io), 115 A8/SD_A8 (io), 116 A9/SD_A9 (io), 117 A10 (out), 118 A11/SD_A11 (io), 119 A12/SD_A12 (io), 120 A13/SD_A13 (io), 123 A14/SD_BA0 (io), 124 TEST (in), 126 A15/SD_BA1 (io), 127 A16 (out), 128 A17 (out), 129 A18 (out), 130 A19 (out), 131 A20 (out), 132 A21 (out), 133 A22/~{FB_CS}4 (io), 134 A23/~{FB_CS}5 (io), 135 ~{FB_CS1}/PCS1 (io), 136 ~{FB_CS0} (out), 140 U1RXD/PUARTL4/SSI_RXD (io), 141 U1TXD/PUARTL5/SSI_TXD (io), 142 ~{U1RTS}/PUARTL6/SSI_FS (io), 143 ~{U1CTS}/PUARTL7/SSI_BCLK (io), 144 FEC_COL/PFECH7 (io), 145 FEC_CRS/PFECH6 (io), 146 FEC_RXCLK/PFECH5 (io), 147 FEC_RXDV/PFECH4 (io), 148 FEC_RXD3/PFECH3 (io), 149 FEC_RXD2/PFECH2 (io), 150 FEC_RXD1/PFECH1 (io), 151 FEC_RXD0/PFECH0 (io), 152 FEC_RXER/PFECL7 (io), 153 FEC_TXCLK/PFECL6 (io), 154 FEC_TXEN/PFECL5 (io), 155 FEC_TXER/PFECL4 (io), 157 FEC_TXD3/PFECL3 (io), 158 FEC_TXD2/PFECL2 (io)
part B pins: 9 EVDD (power), 10 VSS (power), 11 SD_VDD (power), 36 IVDD (power), 39 SD_VDD (power), 41 SD_VDD (power), 42 VSS (power), 67 SD_VDD (power), 68 VSS (power), 69 EVDD (power), 71 EVDD (power), 79 IVDD (power), 81 EVDD (power), 82 VSS (power), 89 VSS (power), 94 EVDD (power), 97 IVDD (power), 98 PLL_VSS (power), 99 PLL_VDD (power), 103 EVDD (power), 104 VSS (power), 105 SD_VDD (power), 121 SD_VDD (power), 122 VSS (power), 125 IVDD (power), 137 SD_VDD (power), 138 VSS (power), 139 EVDD (power), 156 IVDD (power), 159 VSS (power), 160 EVDD (power)

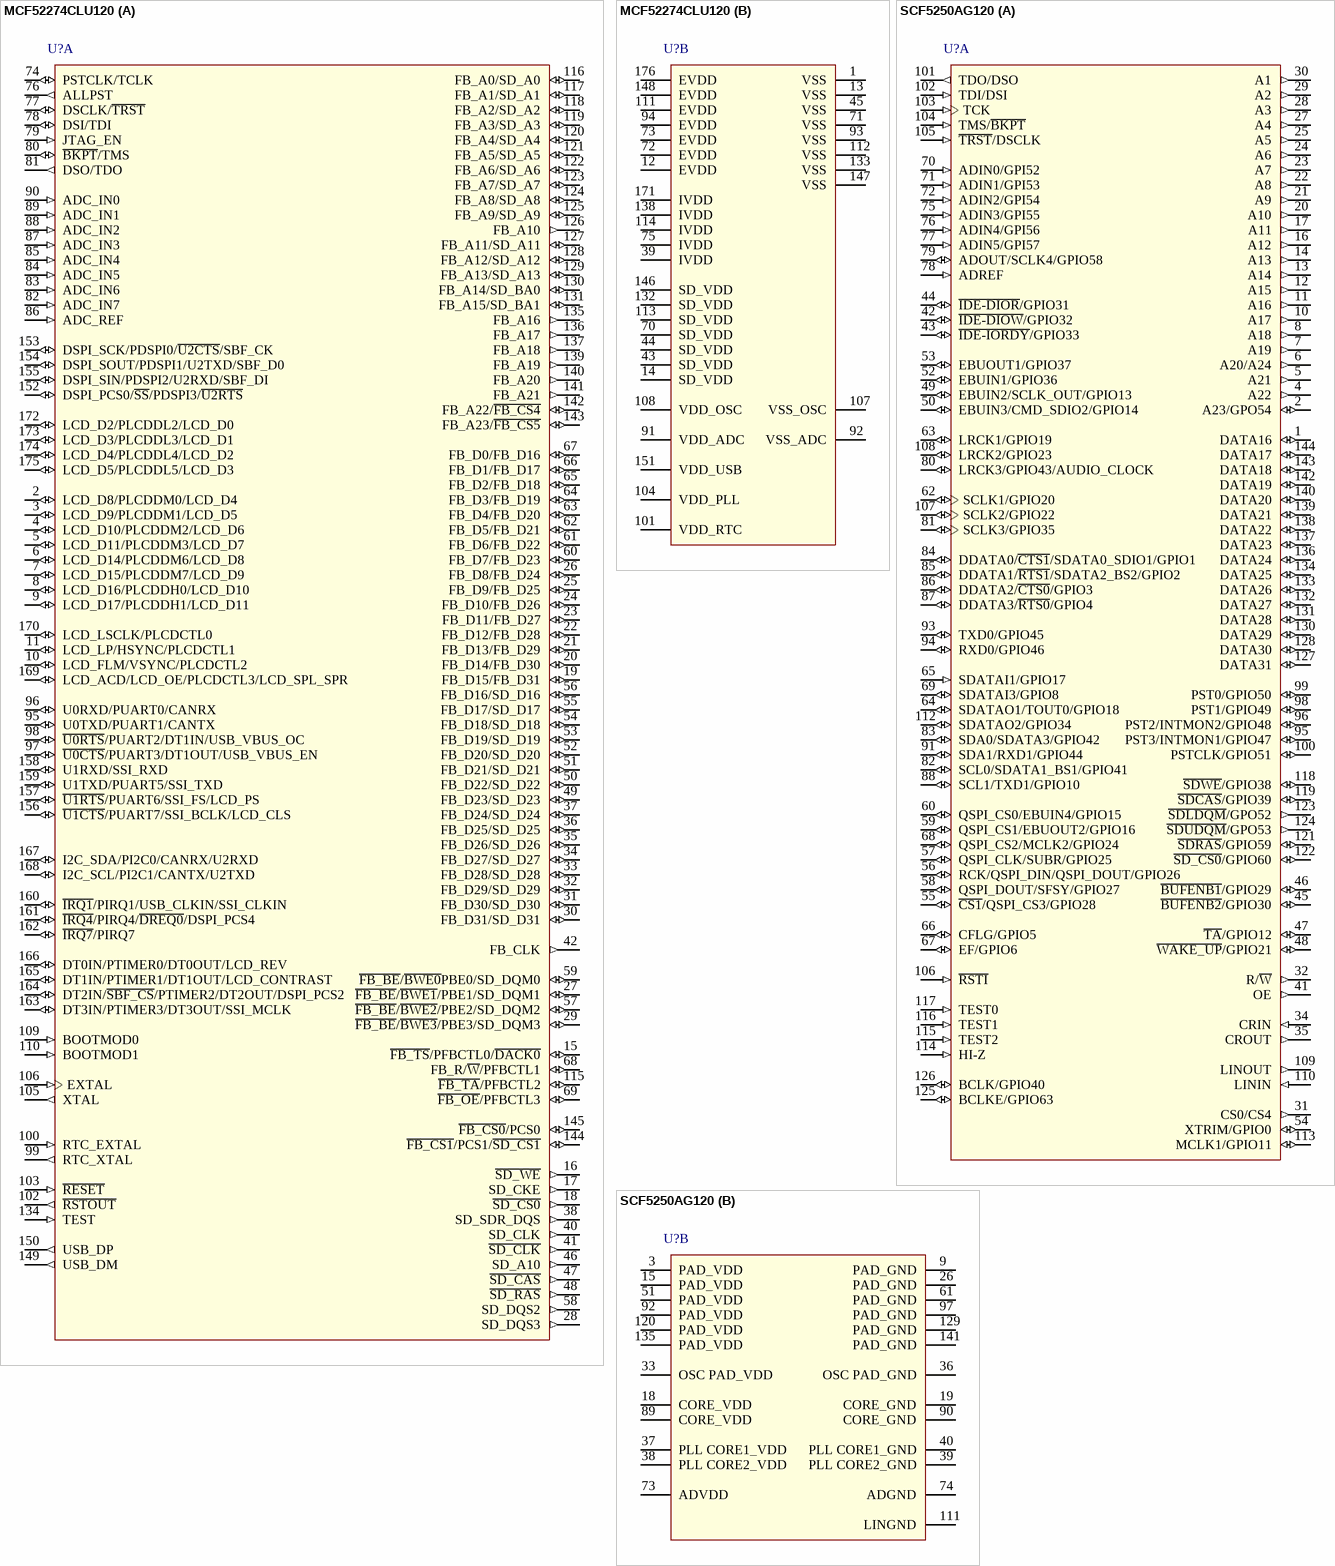
[diagram p4: symbols MCF52274CLU120 to SCF5250AG120]

## MCF52274CLU120
designator U?
MCF52274 32-Bit Coldfire V2 Microprocessor, 120MHz, 128KB RAM, -40°C to 85°C, 176-Pin LQFP; DatasheetVersion: rev8, Sep-2009; PackageVersion: revC, Sep-2009; PackageReference: 1101-02; PackageDescription: 176-Pin Thin Quad Flat Pack, 24 x 24 mm Body, 0.5 mm Pitch; ComponentLink1Description: Manufacturer URL; ComponentLink1URL: http://www.freescale.com/
footprint 1101-02_N (Thin QFP, 176-Leads, Body 24x24mm, Pitch 0.5mm, IPC Medium Density)
footprint 1101-02_L (Thin QFP, 176-Leads, Body 24x24mm, Pitch 0.5mm, IPC High Density)
footprint 1101-02_M (Thin QFP, 176-Leads, Body 24x24mm, Pitch 0.5mm, IPC Low Density)
part A pins: 2 LCD_D8/PLCDDM0/LCD_D4 (io), 3 LCD_D9/PLCDDM1/LCD_D5 (io), 4 LCD_D10/PLCDDM2/LCD_D6 (io), 5 LCD_D11/PLCDDM3/LCD_D7 (io), 6 LCD_D14/PLCDDM6/LCD_D8 (io), 7 LCD_D15/PLCDDM7/LCD_D9 (io), 8 LCD_D16/PLCDDH0/LCD_D10 (io), 9 LCD_D17/PLCDDH1/LCD_D11 (io), 10 LCD_FLM/VSYNC/PLCDCTL2 (io), 11 LCD_LP/HSYNC/PLCDCTL1 (io), 15 ~{FB_TS}/PFBCTL0/~{DACK0} (io), 16 ~{SD_WE} (out), 17 SD_CKE (out), 18 ~{SD_CS0} (out), 19 FB_D15/FB_D31 (io), 20 FB_D14/FB_D30 (io), 21 FB_D13/FB_D29 (io), 22 FB_D12/FB_D28 (io), 23 FB_D11/FB_D27 (io), 24 FB_D10/FB_D26 (io), 25 FB_D9/FB_D25 (io), 26 FB_D8/FB_D24 (io), 27 ~{FB_BE}/~{BWE1}/PBE1/SD_DQM1 (io), 28 SD_DQS3 (out), 29 ~{FB_BE}/~{BWE3}/PBE3/SD_DQM3 (io), 30 FB_D31/SD_D31 (io), 31 FB_D30/SD_D30 (io), 32 FB_D29/SD_D29 (io), 33 FB_D28/SD_D28 (io), 34 FB_D27/SD_D27 (io), 35 FB_D26/SD_D26 (io), 36 FB_D25/SD_D25 (io), 37 FB_D24/SD_D24 (io), 38 SD_SDR_DQS (out), 40 SD_CLK (out), 41 ~{SD_CLK} (out), 42 FB_CLK (out), 46 SD_A10 (out), 47 ~{SD_CAS} (out), 48 ~{SD_RAS} (out), 49 FB_D23/SD_D23 (io), 50 FB_D22/SD_D22 (io), 51 FB_D21/SD_D21 (io), 52 FB_D20/SD_D20 (io), 53 FB_D19/SD_D19 (io), 54 FB_D18/SD_D18 (io), 55 FB_D17/SD_D17 (io), 56 FB_D16/SD_D16 (io), 57 ~{FB_BE}/~{BWE2}/PBE2/SD_DQM2 (io), 58 SD_DQS2 (out), 59 ~{FB_BE}/~{BWE0}PBE0/SD_DQM0 (io), 60 FB_D7/FB_D23 (io), 61 FB_D6/FB_D22 (io), 62 FB_D5/FB_D21 (io), 63 FB_D4/FB_D20 (io), 64 FB_D3/FB_D19 (io), 65 FB_D2/FB_D18 (io), 66 FB_D1/FB_D17 (io), 67 FB_D0/FB_D16 (io), 68 FB_R/~{W}/PFBCTL1 (io), 69 ~{FB_OE}/PFBCTL3 (io), 74 PSTCLK/TCLK (io), 76 ALLPST (out), 77 DSCLK/~{TRST} (io), 78 DSI/TDI (io), 79 JTAG_EN (in), 80 ~{BKPT}/TMS (io), 81 DSO/TDO (out), 82 ADC_IN7 (in), 83 ADC_IN6 (in), 84 ADC_IN5 (in), 85 ADC_IN4 (in), 86 ADC_REF (in), 87 ADC_IN3 (in), 88 ADC_IN2 (in), 89 ADC_IN1 (in), 90 ADC_IN0 (in), 95 U0TXD/PUART1/CANTX (io), 96 U0RXD/PUART0/CANRX (io), 97 ~{U0CTS}/PUART3/DT1OUT/USB_VBUS_EN (io), 98 ~{U0RTS}/PUART2/DT1IN/USB_VBUS_OC (io), 99 RTC_XTAL (out), 100 RTC_EXTAL (in), 102 ~{RSTOUT} (out), 103 ~{RESET} (in), 105 XTAL (out), 106 EXTAL (in), 109 BOOTMOD0 (in), 110 BOOTMOD1 (in), 115 ~{FB_TA}/PFBCTL2 (io), 116 FB_A0/SD_A0 (io), 117 FB_A1/SD_A1 (io), 118 FB_A2/SD_A2 (io), 119 FB_A3/SD_A3 (io), 120 FB_A4/SD_A4 (io), 121 FB_A5/SD_A5 (io), 122 FB_A6/SD_A6 (io), 123 FB_A7/SD_A7 (io), 124 FB_A8/SD_A8 (io), 125 FB_A9/SD_A9 (io), 126 FB_A10 (out), 127 FB_A11/SD_A11 (io), 128 FB_A12/SD_A12 (io), 129 FB_A13/SD_A13 (io), 130 FB_A14/SD_BA0 (io), 131 FB_A15/SD_BA1 (io), 134 TEST (in), 135 FB_A16 (out), 136 FB_A17 (out), 137 FB_A18 (out), 139 FB_A19 (out), 140 FB_A20 (out), 141 FB_A21 (out), 142 FB_A22/~{FB_CS4} (io), 143 FB_A23/~{FB_CS5} (io), 144 ~{FB_CS1}/PCS1/~{SD_CS1} (io), 145 ~{FB_CS0}/PCS0 (io), 149 USB_DM (out), 150 USB_DP (out), 152 DSPI_PCS0/~{SS}/PDSPI3/~{U2RTS} (io), 153 DSPI_SCK/PDSPI0/~{U2CTS}/SBF_CK (io), 154 DSPI_SOUT/PDSPI1/U2TXD/SBF_D0 (io), 155 DSPI_SIN/PDSPI2/U2RXD/SBF_DI (io), 156 ~{U1CTS}/PUART7/SSI_BCLK/LCD_CLS (io), 157 ~{U1RTS}/PUART6/SSI_FS/LCD_PS (io), 158 U1RXD/SSI_RXD (io), 159 U1TXD/PUART5/SSI_TXD (io), 160 ~{IRQ1}/PIRQ1/USB_CLKIN/SSI_CLKIN (io), 161 ~{IRQ4}/PIRQ4/~{DREQ0}/DSPI_PCS4 (io), 162 ~{IRQ7}/PIRQ7 (io), 163 DT3IN/PTIMER3/DT3OUT/SSI_MCLK (io), 164 DT2IN/~{SBF_CS}/PTIMER2/DT2OUT/DSPI_PCS2 (io), 165 DT1IN/PTIMER1/DT1OUT/LCD_CONTRAST (io), 166 DT0IN/PTIMER0/DT0OUT/LCD_REV (io), 167 I2C_SDA/PI2C0/CANRX/U2RXD (io), 168 I2C_SCL/PI2C1/CANTX/U2TXD (io), 169 LCD_ACD/LCD_OE/PLCDCTL3/LCD_SPL_SPR (io), 170 LCD_LSCLK/PLCDCTL0 (io), 172 LCD_D2/PLCDDL2/LCD_D0 (io), 173 LCD_D3/PLCDDL3/LCD_D1 (io), 174 LCD_D4/PLCDDL4/LCD_D2 (io), 175 LCD_D5/PLCDDL5/LCD_D3 (io)
part B pins: 1 VSS (power), 12 EVDD (power), 13 VSS (power), 14 SD_VDD (power), 39 IVDD (power), 43 SD_VDD (power), 44 SD_VDD (power), 45 VSS (power), 70 SD_VDD (power), 71 VSS (power), 72 EVDD (power), 73 EVDD (power), 75 IVDD (power), 91 VDD_ADC (power), 92 VSS_ADC (power), 93 VSS (power), 94 EVDD (power), 101 VDD_RTC (power), 104 VDD_PLL (power), 107 VSS_OSC (power), 108 VDD_OSC (power), 111 EVDD (power), 112 VSS (power), 113 SD_VDD (power), 114 IVDD (power), 132 SD_VDD (power), 133 VSS (power), 138 IVDD (power), 146 SD_VDD (power), 147 VSS (power), 148 EVDD (power), 151 VDD_USB (power), 171 IVDD (power), 176 EVDD (power)

## SCF5250AG120
designator U?
SCF5250 32-Bit Coldfire V2 Microprocessor, 120MHz, 128KB RAM, -20°C to 70°C, Lead Free, 144-Pin QFP; DatasheetVersion: rev1.3, Jul-2006; PackageVersion: revG, Nov-2009; PackageReference: 918-03; PackageDescription: 144-Pin Thin Quad Flat Pack, 20 x 20 mm Body, 0.5 mm Pitch; ComponentLink1Description: Manufacturer URL; ComponentLink1URL: http://www.freescale.com/
footprint 918-03_N (Thin QFP, 144-Leads, Body 20x20mm, Pitch 0.5mm, IPC Medium Density)
footprint 918-03_L (Thin QFP, 144-Leads, Body 20x20mm, Pitch 0.5mm, IPC High Density)
footprint 918-03_M (Thin QFP, 144-Leads, Body 20x20mm, Pitch 0.5mm, IPC Low Density)
part A pins: 1 DATA16 (io), 2 A23/GPO54 (io), 4 A22 (out), 5 A21 (out), 6 A20/A24 (out), 7 A19 (out), 8 A18 (out), 10 A17 (out), 11 A16 (out), 12 A15 (out), 13 A14 (out), 14 A13 (out), 16 A12 (out), 17 A11 (out), 20 A10 (out), 21 A9 (out), 22 A8 (out), 23 A7 (out), 24 A6 (out), 25 A5 (out), 27 A4 (out), 28 A3 (out), 29 A2 (out), 30 A1 (out), 31 CS0/CS4 (out), 32 R/~{W} (out), 34 CRIN (in), 35 CROUT (out), 41 OE (out), 42 ~{IDE-DIOW}/GPIO32 (io), 43 ~{IDE-IORDY}/GPIO33 (io), 44 ~{IDE-DIOR}/GPIO31 (io), 45 ~{BUFENB2}/GPIO30 (io), 46 ~{BUFENB1}/GPIO29 (io), 47 ~{TA}/GPIO12 (io), 48 ~{WAKE_UP}/GPIO21 (io), 49 EBUIN2/SCLK_OUT/GPIO13 (io), 50 EBUIN3/CMD_SDIO2/GPIO14 (io), 52 EBUIN1/GPIO36 (io), 53 EBUOUT1/GPIO37 (io), 54 XTRIM/GPIO0 (io), 55 ~{CS1}/QSPI_CS3/GPIO28 (io), 56 RCK/QSPI_DIN/QSPI_DOUT/GPIO26 (io), 57 QSPI_CLK/SUBR/GPIO25 (io), 58 QSPI_DOUT/SFSY/GPIO27 (io), 59 QSPI_CS1/EBUOUT2/GPIO16 (io), 60 QSPI_CS0/EBUIN4/GPIO15 (io), 62 SCLK1/GPIO20 (io), 63 LRCK1/GPIO19 (io), 64 SDATAO1/TOUT0/GPIO18 (io), 65 SDATAI1/GPIO17 (in), 66 CFLG/GPIO5 (io), 67 EF/GPIO6 (io), 68 QSPI_CS2/MCLK2/GPIO24 (io), 69 SDATAI3/GPIO8 (io), 70 ADIN0/GPI52 (in), 71 ADIN1/GPI53 (in), 72 ADIN2/GPI54 (in), 75 ADIN3/GPI55 (in), 76 ADIN4/GPI56 (in), 77 ADIN5/GPI57 (in), 78 ADREF (in), 79 ADOUT/SCLK4/GPIO58 (io), 80 LRCK3/GPIO43/AUDIO_CLOCK (io), 81 SCLK3/GPIO35 (io), 82 SCL0/SDATA1_BS1/GPIO41 (io), 83 SDA0/SDATA3/GPIO42 (io), 84 DDATA0/~{CTS1}/SDATA0_SDIO1/GPIO1 (io), 85 DDATA1/~{RTS1}/SDATA2_BS2/GPIO2 (io), 86 DDATA2/~{CTS0}/GPIO3 (io), 87 DDATA3/~{RTS0}/GPIO4 (io), 88 SCL1/TXD1/GPIO10 (io), 91 SDA1/RXD1/GPIO44 (io), 93 TXD0/GPIO45 (io), 94 RXD0/GPIO46 (io), 95 PST3/INTMON1/GPIO47 (io), 96 PST2/INTMON2/GPIO48 (io), 98 PST1/GPIO49 (io), 99 PST0/GPIO50 (io), 100 PSTCLK/GPIO51 (io), 101 TDO/DSO (out), 102 TDI/DSI (in), 103 TCK (in), 104 TMS/~{BKPT} (in), 105 ~{TRST}/DSCLK (in), 106 ~{RSTI} (in), 107 SCLK2/GPIO22 (io), 108 LRCK2/GPIO23 (io), 109 LINOUT (out), 110 LININ (in), 112 SDATAO2/GPIO34 (io), 113 MCLK1/GPIO11 (io), 114 HI-Z (in), 115 TEST2 (in), 116 TEST1 (in), 117 TEST0 (in), 118 ~{SDWE}/GPIO38 (io), 119 ~{SDCAS}/GPIO39 (io), 121 ~{SDRAS}/GPIO59 (io), 122 ~{SD_CS0}/GPIO60 (io), 123 ~{SDLDQM}/GPO52 (out), 124 ~{SDUDQM}/GPO53 (out), 125 BCLKE/GPIO63 (io), 126 BCLK/GPIO40 (io), 127 DATA31 (io), 128 DATA30 (io), 130 DATA29 (io), 131 DATA28 (io), 132 DATA27 (io), 133 DATA26 (io), 134 DATA25 (io), 136 DATA24 (io), 137 DATA23 (io), 138 DATA22 (io), 139 DATA21 (io), 140 DATA20 (io), 142 DATA19 (io), 143 DATA18 (io), 144 DATA17 (io)
part B pins: 3 PAD_VDD (power), 9 PAD_GND (power), 15 PAD_VDD (power), 18 CORE_VDD (power), 19 CORE_GND (power), 26 PAD_GND (power), 33 OSC PAD_VDD (power), 36 OSC PAD_GND (power), 37 PLL CORE1_VDD (power), 38 PLL CORE2_VDD (power), 39 PLL CORE2_GND (power), 40 PLL CORE1_GND (power), 51 PAD_VDD (power), 61 PAD_GND (power), 73 ADVDD (power), 74 ADGND (power), 89 CORE_VDD (power), 90 CORE_GND (power), 92 PAD_VDD (power), 97 PAD_GND (power), 111 LINGND (power), 120 PAD_VDD (power), 129 PAD_GND (power), 135 PAD_VDD (power), 141 PAD_GND (power)

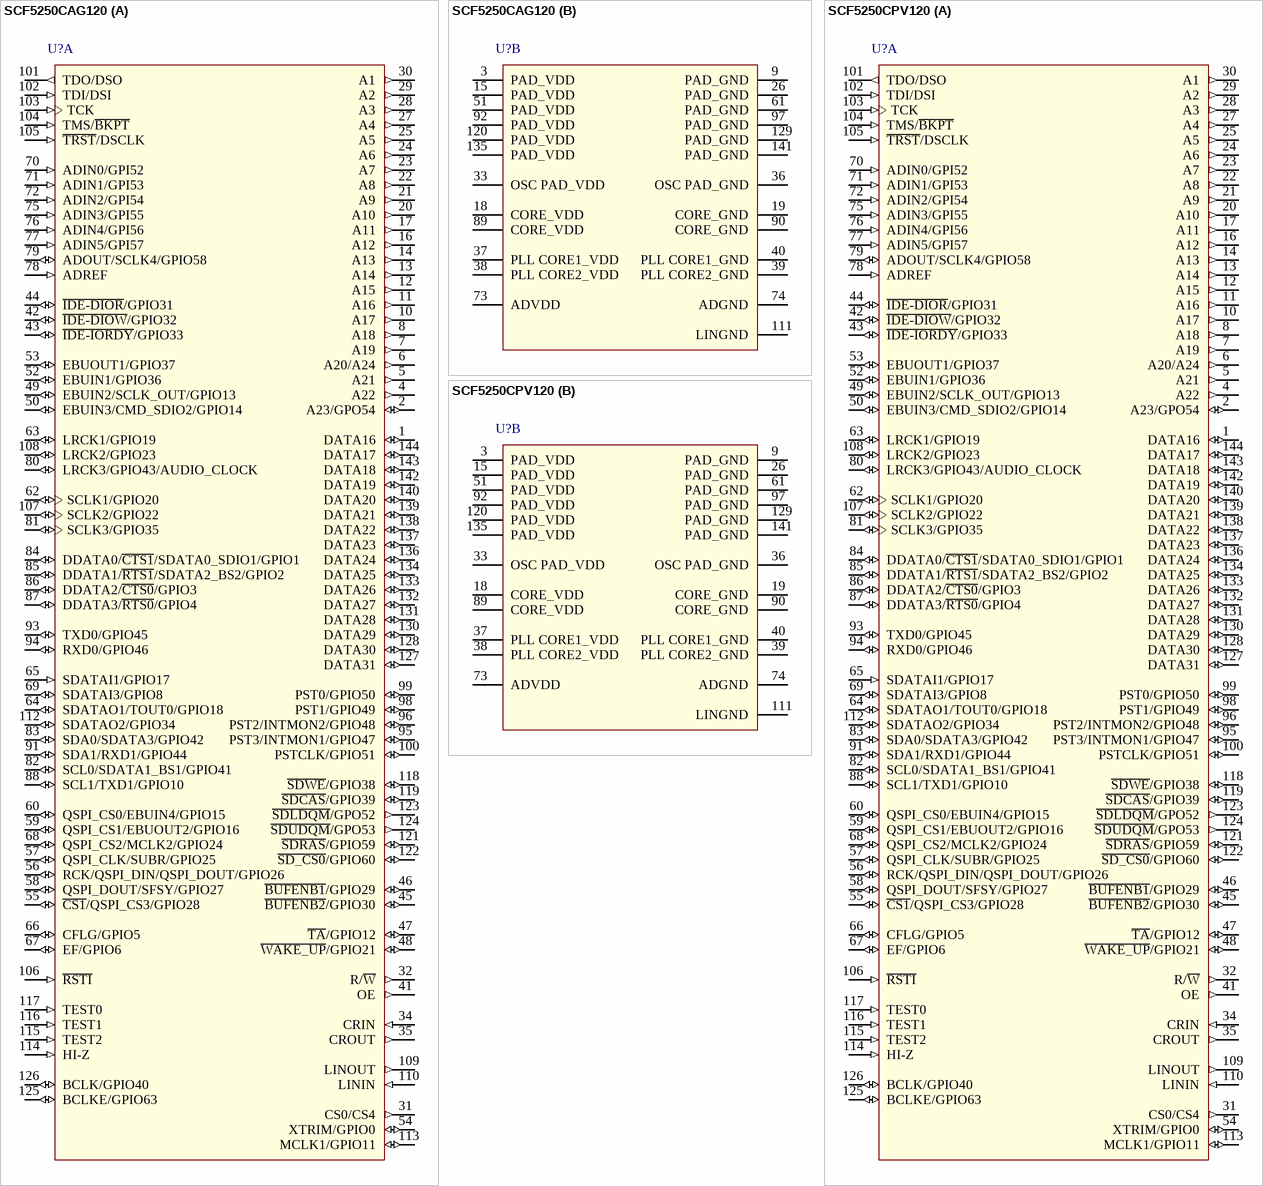
[diagram p5: symbols SCF5250CAG120 to SCF5250CPV120]

## SCF5250CAG120
designator U?
SCF5250 32-Bit Coldfire V2 Microprocessor, 120MHz, 128KB RAM, -40°C to 85°C, 144-Pin QFP; DatasheetVersion: rev1.1, Apr-2005; PackageVersion: revG, Nov-2009; PackageReference: 918-03; PackageDescription: 144-Pin Thin Quad Flat Pack, 20 x 20 mm Body, 0.5 mm Pitch; ComponentLink1Description: Manufacturer URL; ComponentLink1URL: http://www.freescale.com/
footprint 918-03_N (Thin QFP, 144-Leads, Body 20x20mm, Pitch 0.5mm, IPC Medium Density)
footprint 918-03_L (Thin QFP, 144-Leads, Body 20x20mm, Pitch 0.5mm, IPC High Density)
footprint 918-03_M (Thin QFP, 144-Leads, Body 20x20mm, Pitch 0.5mm, IPC Low Density)
part A pins: 1 DATA16 (io), 2 A23/GPO54 (io), 4 A22 (out), 5 A21 (out), 6 A20/A24 (out), 7 A19 (out), 8 A18 (out), 10 A17 (out), 11 A16 (out), 12 A15 (out), 13 A14 (out), 14 A13 (out), 16 A12 (out), 17 A11 (out), 20 A10 (out), 21 A9 (out), 22 A8 (out), 23 A7 (out), 24 A6 (out), 25 A5 (out), 27 A4 (out), 28 A3 (out), 29 A2 (out), 30 A1 (out), 31 CS0/CS4 (out), 32 R/~{W} (out), 34 CRIN (in), 35 CROUT (out), 41 OE (out), 42 ~{IDE-DIOW}/GPIO32 (io), 43 ~{IDE-IORDY}/GPIO33 (io), 44 ~{IDE-DIOR}/GPIO31 (io), 45 ~{BUFENB2}/GPIO30 (io), 46 ~{BUFENB1}/GPIO29 (io), 47 ~{TA}/GPIO12 (io), 48 ~{WAKE_UP}/GPIO21 (io), 49 EBUIN2/SCLK_OUT/GPIO13 (io), 50 EBUIN3/CMD_SDIO2/GPIO14 (io), 52 EBUIN1/GPIO36 (io), 53 EBUOUT1/GPIO37 (io), 54 XTRIM/GPIO0 (io), 55 ~{CS1}/QSPI_CS3/GPIO28 (io), 56 RCK/QSPI_DIN/QSPI_DOUT/GPIO26 (io), 57 QSPI_CLK/SUBR/GPIO25 (io), 58 QSPI_DOUT/SFSY/GPIO27 (io), 59 QSPI_CS1/EBUOUT2/GPIO16 (io), 60 QSPI_CS0/EBUIN4/GPIO15 (io), 62 SCLK1/GPIO20 (io), 63 LRCK1/GPIO19 (io), 64 SDATAO1/TOUT0/GPIO18 (io), 65 SDATAI1/GPIO17 (in), 66 CFLG/GPIO5 (io), 67 EF/GPIO6 (io), 68 QSPI_CS2/MCLK2/GPIO24 (io), 69 SDATAI3/GPIO8 (io), 70 ADIN0/GPI52 (in), 71 ADIN1/GPI53 (in), 72 ADIN2/GPI54 (in), 75 ADIN3/GPI55 (in), 76 ADIN4/GPI56 (in), 77 ADIN5/GPI57 (in), 78 ADREF (in), 79 ADOUT/SCLK4/GPIO58 (io), 80 LRCK3/GPIO43/AUDIO_CLOCK (io), 81 SCLK3/GPIO35 (io), 82 SCL0/SDATA1_BS1/GPIO41 (io), 83 SDA0/SDATA3/GPIO42 (io), 84 DDATA0/~{CTS1}/SDATA0_SDIO1/GPIO1 (io), 85 DDATA1/~{RTS1}/SDATA2_BS2/GPIO2 (io), 86 DDATA2/~{CTS0}/GPIO3 (io), 87 DDATA3/~{RTS0}/GPIO4 (io), 88 SCL1/TXD1/GPIO10 (io), 91 SDA1/RXD1/GPIO44 (io), 93 TXD0/GPIO45 (io), 94 RXD0/GPIO46 (io), 95 PST3/INTMON1/GPIO47 (io), 96 PST2/INTMON2/GPIO48 (io), 98 PST1/GPIO49 (io), 99 PST0/GPIO50 (io), 100 PSTCLK/GPIO51 (io), 101 TDO/DSO (out), 102 TDI/DSI (in), 103 TCK (in), 104 TMS/~{BKPT} (in), 105 ~{TRST}/DSCLK (in), 106 ~{RSTI} (in), 107 SCLK2/GPIO22 (io), 108 LRCK2/GPIO23 (io), 109 LINOUT (out), 110 LININ (in), 112 SDATAO2/GPIO34 (io), 113 MCLK1/GPIO11 (io), 114 HI-Z (in), 115 TEST2 (in), 116 TEST1 (in), 117 TEST0 (in), 118 ~{SDWE}/GPIO38 (io), 119 ~{SDCAS}/GPIO39 (io), 121 ~{SDRAS}/GPIO59 (io), 122 ~{SD_CS0}/GPIO60 (io), 123 ~{SDLDQM}/GPO52 (out), 124 ~{SDUDQM}/GPO53 (out), 125 BCLKE/GPIO63 (io), 126 BCLK/GPIO40 (io), 127 DATA31 (io), 128 DATA30 (io), 130 DATA29 (io), 131 DATA28 (io), 132 DATA27 (io), 133 DATA26 (io), 134 DATA25 (io), 136 DATA24 (io), 137 DATA23 (io), 138 DATA22 (io), 139 DATA21 (io), 140 DATA20 (io), 142 DATA19 (io), 143 DATA18 (io), 144 DATA17 (io)
part B pins: 3 PAD_VDD (power), 9 PAD_GND (power), 15 PAD_VDD (power), 18 CORE_VDD (power), 19 CORE_GND (power), 26 PAD_GND (power), 33 OSC PAD_VDD (power), 36 OSC PAD_GND (power), 37 PLL CORE1_VDD (power), 38 PLL CORE2_VDD (power), 39 PLL CORE2_GND (power), 40 PLL CORE1_GND (power), 51 PAD_VDD (power), 61 PAD_GND (power), 73 ADVDD (power), 74 ADGND (power), 89 CORE_VDD (power), 90 CORE_GND (power), 92 PAD_VDD (power), 97 PAD_GND (power), 111 LINGND (power), 120 PAD_VDD (power), 129 PAD_GND (power), 135 PAD_VDD (power), 141 PAD_GND (power)

## SCF5250CPV120
designator U?
SCF5250 32-Bit Coldfire V2 Microprocessor, 120MHz, 128KB RAM, -40°C to 85°C, Leaded, 144-Pin QFP; DatasheetVersion: rev1.3, Jul-2006; PackageVersion: revG, Nov-2009; PackageReference: 918-03; PackageDescription: 144-Pin Thin Quad Flat Pack, 20 x 20 mm Body, 0.5 mm Pitch; ComponentLink1Description: Manufacturer URL; ComponentLink1URL: http://www.freescale.com/
footprint 918-03_N (Thin QFP, 144-Leads, Body 20x20mm, Pitch 0.5mm, IPC Medium Density)
footprint 918-03_L (Thin QFP, 144-Leads, Body 20x20mm, Pitch 0.5mm, IPC High Density)
footprint 918-03_M (Thin QFP, 144-Leads, Body 20x20mm, Pitch 0.5mm, IPC Low Density)
part A pins: 1 DATA16 (io), 2 A23/GPO54 (io), 4 A22 (out), 5 A21 (out), 6 A20/A24 (out), 7 A19 (out), 8 A18 (out), 10 A17 (out), 11 A16 (out), 12 A15 (out), 13 A14 (out), 14 A13 (out), 16 A12 (out), 17 A11 (out), 20 A10 (out), 21 A9 (out), 22 A8 (out), 23 A7 (out), 24 A6 (out), 25 A5 (out), 27 A4 (out), 28 A3 (out), 29 A2 (out), 30 A1 (out), 31 CS0/CS4 (out), 32 R/~{W} (out), 34 CRIN (in), 35 CROUT (out), 41 OE (out), 42 ~{IDE-DIOW}/GPIO32 (io), 43 ~{IDE-IORDY}/GPIO33 (io), 44 ~{IDE-DIOR}/GPIO31 (io), 45 ~{BUFENB2}/GPIO30 (io), 46 ~{BUFENB1}/GPIO29 (io), 47 ~{TA}/GPIO12 (io), 48 ~{WAKE_UP}/GPIO21 (io), 49 EBUIN2/SCLK_OUT/GPIO13 (io), 50 EBUIN3/CMD_SDIO2/GPIO14 (io), 52 EBUIN1/GPIO36 (io), 53 EBUOUT1/GPIO37 (io), 54 XTRIM/GPIO0 (io), 55 ~{CS1}/QSPI_CS3/GPIO28 (io), 56 RCK/QSPI_DIN/QSPI_DOUT/GPIO26 (io), 57 QSPI_CLK/SUBR/GPIO25 (io), 58 QSPI_DOUT/SFSY/GPIO27 (io), 59 QSPI_CS1/EBUOUT2/GPIO16 (io), 60 QSPI_CS0/EBUIN4/GPIO15 (io), 62 SCLK1/GPIO20 (io), 63 LRCK1/GPIO19 (io), 64 SDATAO1/TOUT0/GPIO18 (io), 65 SDATAI1/GPIO17 (in), 66 CFLG/GPIO5 (io), 67 EF/GPIO6 (io), 68 QSPI_CS2/MCLK2/GPIO24 (io), 69 SDATAI3/GPIO8 (io), 70 ADIN0/GPI52 (in), 71 ADIN1/GPI53 (in), 72 ADIN2/GPI54 (in), 75 ADIN3/GPI55 (in), 76 ADIN4/GPI56 (in), 77 ADIN5/GPI57 (in), 78 ADREF (in), 79 ADOUT/SCLK4/GPIO58 (io), 80 LRCK3/GPIO43/AUDIO_CLOCK (io), 81 SCLK3/GPIO35 (io), 82 SCL0/SDATA1_BS1/GPIO41 (io), 83 SDA0/SDATA3/GPIO42 (io), 84 DDATA0/~{CTS1}/SDATA0_SDIO1/GPIO1 (io), 85 DDATA1/~{RTS1}/SDATA2_BS2/GPIO2 (io), 86 DDATA2/~{CTS0}/GPIO3 (io), 87 DDATA3/~{RTS0}/GPIO4 (io), 88 SCL1/TXD1/GPIO10 (io), 91 SDA1/RXD1/GPIO44 (io), 93 TXD0/GPIO45 (io), 94 RXD0/GPIO46 (io), 95 PST3/INTMON1/GPIO47 (io), 96 PST2/INTMON2/GPIO48 (io), 98 PST1/GPIO49 (io), 99 PST0/GPIO50 (io), 100 PSTCLK/GPIO51 (io), 101 TDO/DSO (out), 102 TDI/DSI (in), 103 TCK (in), 104 TMS/~{BKPT} (in), 105 ~{TRST}/DSCLK (in), 106 ~{RSTI} (in), 107 SCLK2/GPIO22 (io), 108 LRCK2/GPIO23 (io), 109 LINOUT (out), 110 LININ (in), 112 SDATAO2/GPIO34 (io), 113 MCLK1/GPIO11 (io), 114 HI-Z (in), 115 TEST2 (in), 116 TEST1 (in), 117 TEST0 (in), 118 ~{SDWE}/GPIO38 (io), 119 ~{SDCAS}/GPIO39 (io), 121 ~{SDRAS}/GPIO59 (io), 122 ~{SD_CS0}/GPIO60 (io), 123 ~{SDLDQM}/GPO52 (out), 124 ~{SDUDQM}/GPO53 (out), 125 BCLKE/GPIO63 (io), 126 BCLK/GPIO40 (io), 127 DATA31 (io), 128 DATA30 (io), 130 DATA29 (io), 131 DATA28 (io), 132 DATA27 (io), 133 DATA26 (io), 134 DATA25 (io), 136 DATA24 (io), 137 DATA23 (io), 138 DATA22 (io), 139 DATA21 (io), 140 DATA20 (io), 142 DATA19 (io), 143 DATA18 (io), 144 DATA17 (io)
part B pins: 3 PAD_VDD (power), 9 PAD_GND (power), 15 PAD_VDD (power), 18 CORE_VDD (power), 19 CORE_GND (power), 26 PAD_GND (power), 33 OSC PAD_VDD (power), 36 OSC PAD_GND (power), 37 PLL CORE1_VDD (power), 38 PLL CORE2_VDD (power), 39 PLL CORE2_GND (power), 40 PLL CORE1_GND (power), 51 PAD_VDD (power), 61 PAD_GND (power), 73 ADVDD (power), 74 ADGND (power), 89 CORE_VDD (power), 90 CORE_GND (power), 92 PAD_VDD (power), 97 PAD_GND (power), 111 LINGND (power), 120 PAD_VDD (power), 129 PAD_GND (power), 135 PAD_VDD (power), 141 PAD_GND (power)

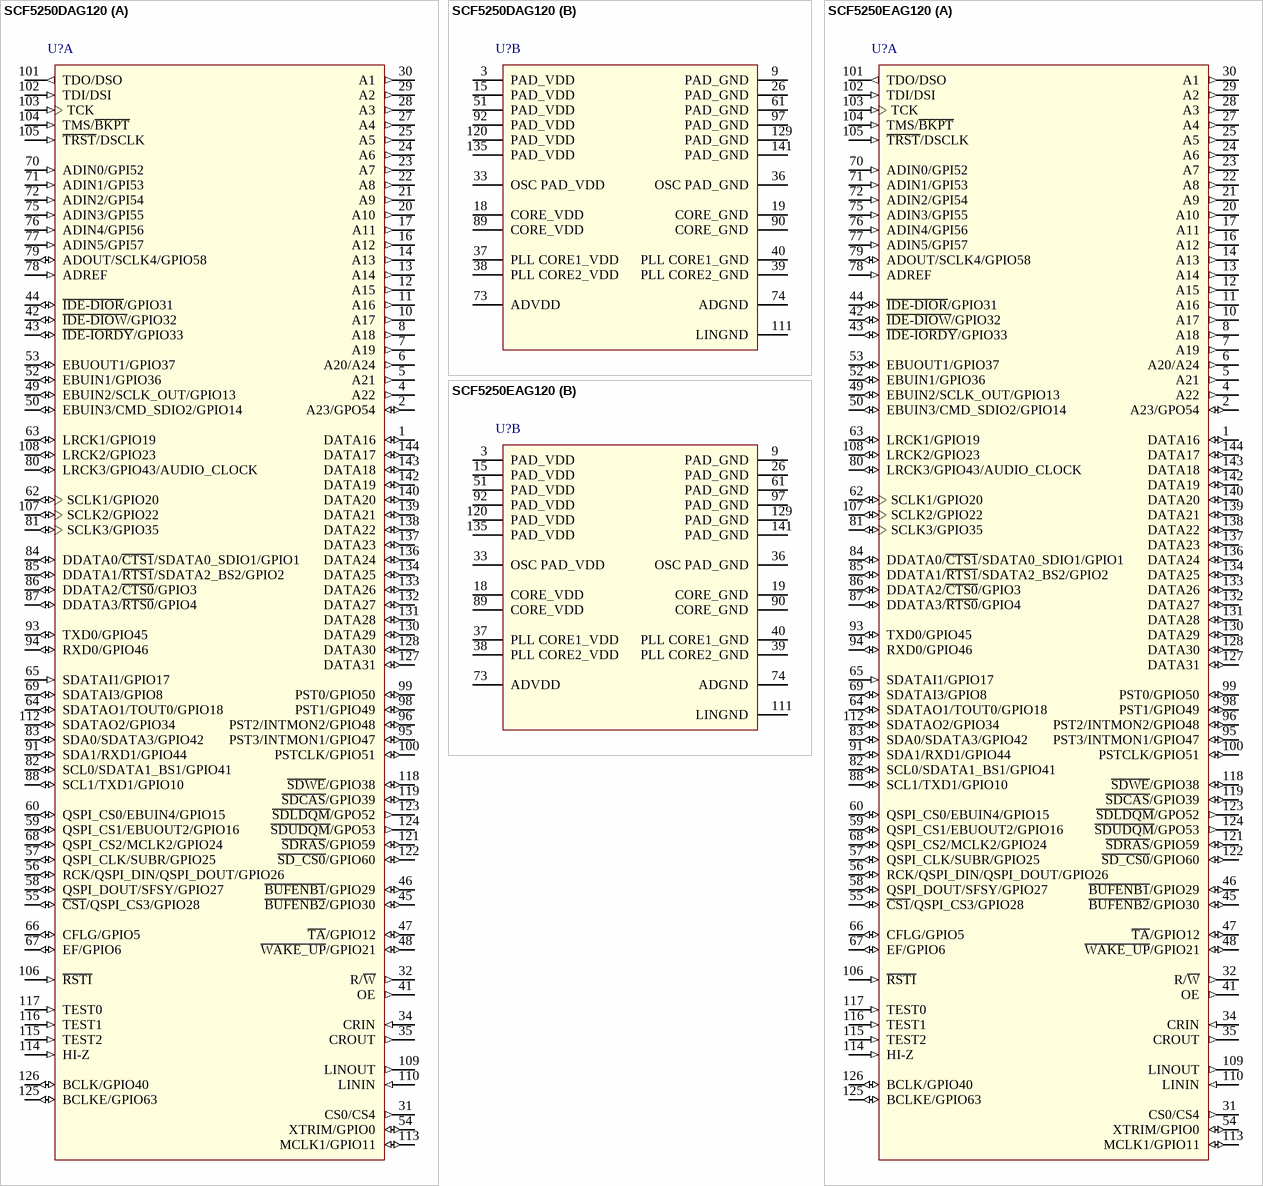
[diagram p6: symbols SCF5250DAG120 to SCF5250EAG120]